# Altium integrated library Altera FPGA.IntLib: 467 symbols (part 1 of 3)
Pins are listed as number, name and electrical type; pins without a type are passive.

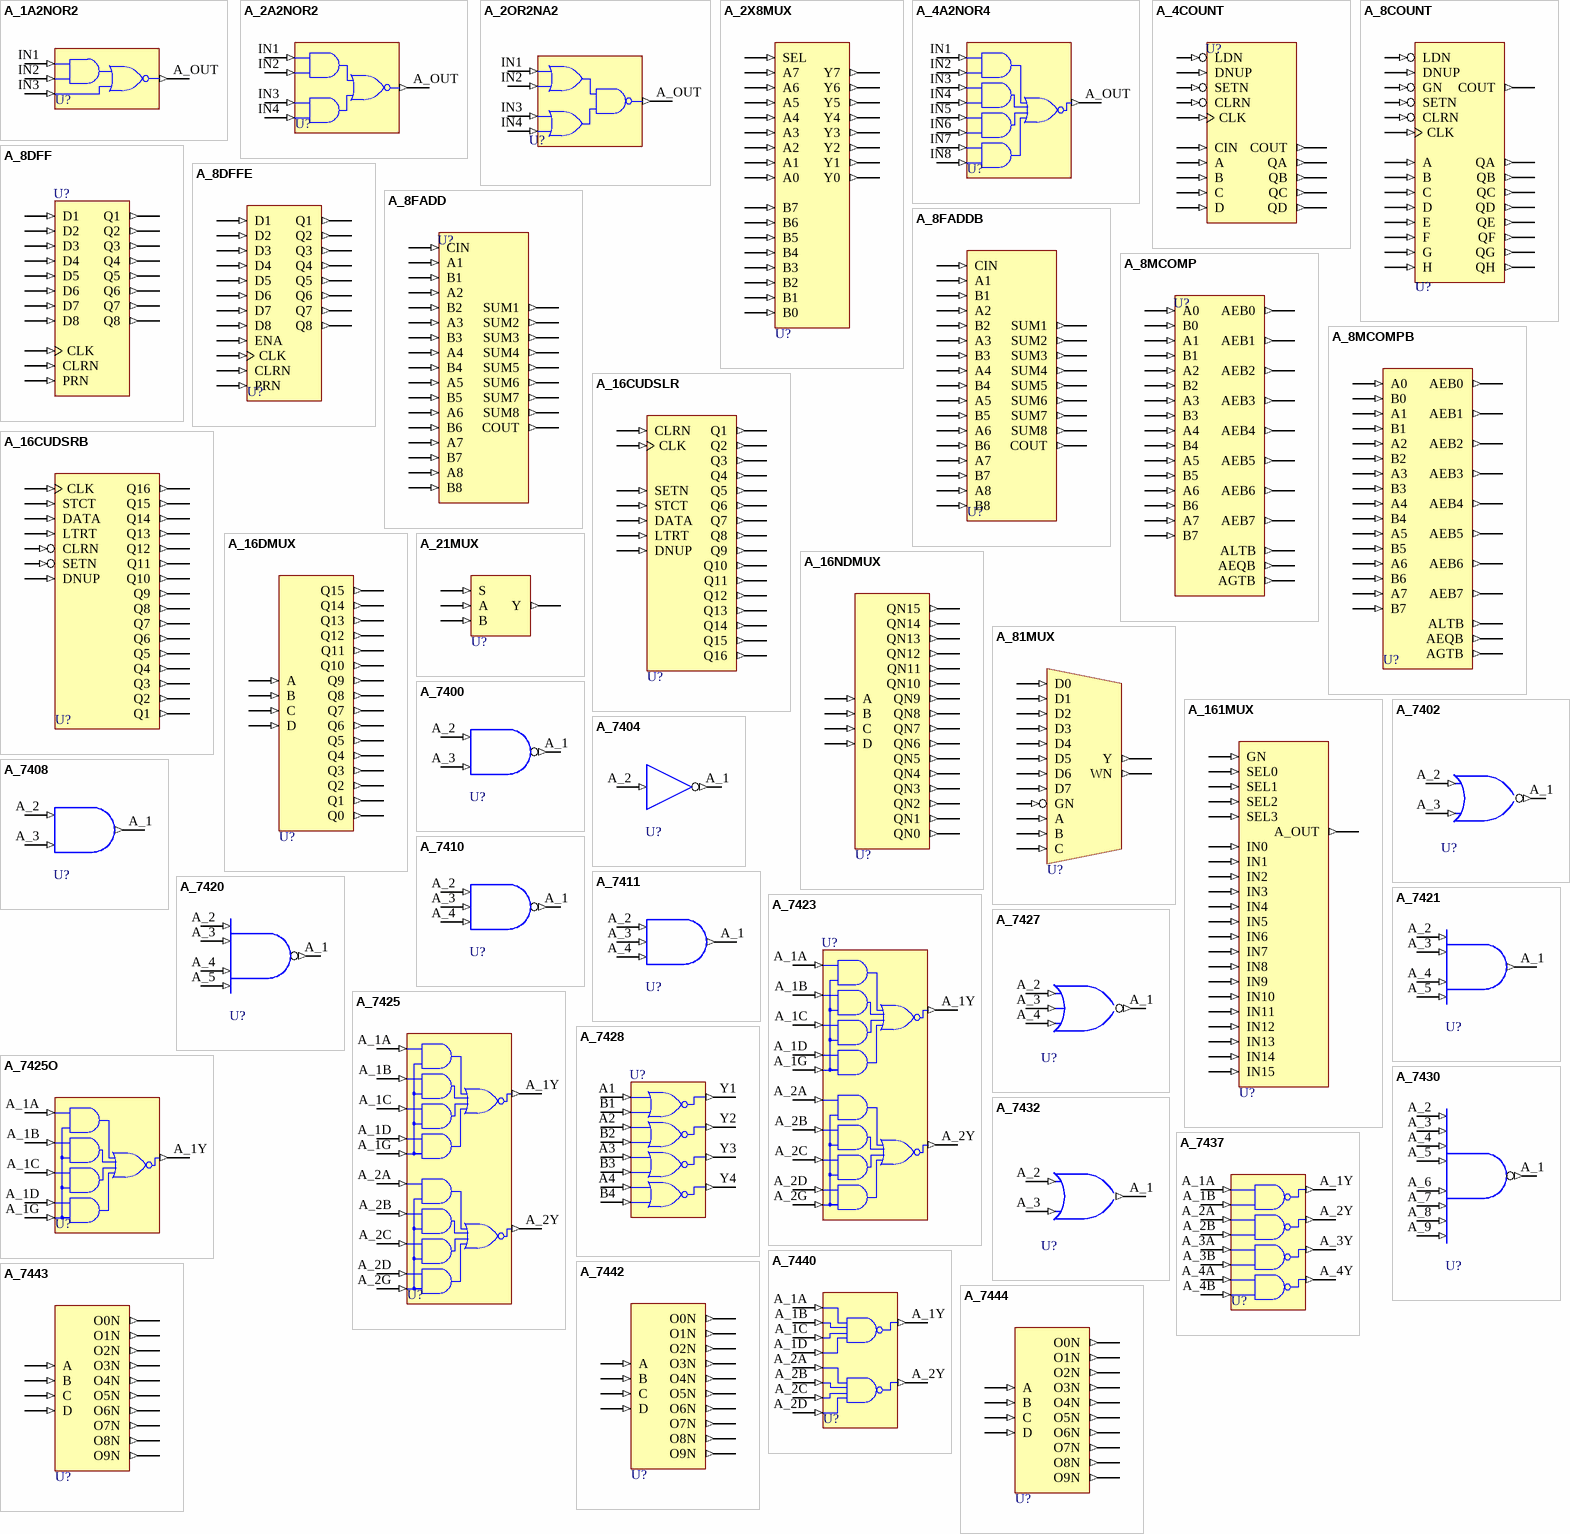
[diagram p0: symbols A_1A2NOR2 to A_7444]

## A_1A2NOR2
designator U?
3-Input AND-NOR Gate.; FPGAVendor: Altera; Published: 17-Apr-2002; Publisher: Altium Limited
pins: A_OUT (out), IN1 (in), IN2 (in), IN3 (in)

## A_2A2NOR2
designator U?
4-Input AND-NOR Gate.; FPGAVendor: Altera; Published: 17-Apr-2002; Publisher: Altium Limited
pins: A_OUT (out), IN1 (in), IN2 (in), IN3 (in), IN4 (in)

## A_2OR2NA2
designator U?
4-Input OR-NAND Gate.; FPGAVendor: Altera; Published: 17-Apr-2002; Publisher: Altium Limited
pins: A_OUT (out), IN1 (in), IN2 (in), IN3 (in), IN4 (in)

## A_2X8MUX
designator U?
2-Line-to-1-Line Multiplexer for 8-Bit Buses; FPGAVendor: Altera; Published: 17-Apr-2002; Publisher: Altium Limited
pins: A0 (in), A1 (in), A2 (in), A3 (in), A4 (in), A5 (in), A6 (in), A7 (in), B0 (in), B1 (in), B2 (in), B3 (in), B4 (in), B5 (in), B6 (in), B7 (in), SEL (in), Y0 (out), Y1 (out), Y2 (out), Y3 (out), Y4 (out), Y5 (out), Y6 (out), Y7 (out)

## A_4A2NOR4
designator U?
8-Input AND-NOR Gate.; FPGAVendor: Altera; Published: 17-Apr-2002; Publisher: Altium Limited
pins: A_OUT (out), IN1 (in), IN2 (in), IN3 (in), IN4 (in), IN5 (in), IN6 (in), IN7 (in), IN8 (in)

## A_4COUNT
designator U?
4-Bit Binary Up/Down Counter with Synchronous Load (LDN), Asynchronous Clear, and Asynchronous Load (SETN); FPGAVendor: Altera; Published: 17-Apr-2002; Publisher: Altium Limited
pins: A (in), B (in), C (in), CIN (in), CLK (in), CLRN (in), COUT (out), D (in), DNUP (in), LDN (in), QA (out), QB (out), QC (out), QD (out), SETN (in)

## A_8COUNT
designator U?
8-Bit Binary Up/Down Counter with Synchronous Load (LDN), Asynchronous Clear, and Asynchronous Load (SETN).; FPGAVendor: Altera; Published: 17-Apr-2002; Publisher: Altium Limited
pins: A (in), B (in), C (in), CLK (in), CLRN (in), COUT (out), D (in), DNUP (in), E (in), F (in), G (in), GN (in), H (in), LDN (in), QA (out), QB (out), QC (out), QD (out), QE (out), QF (out), QG (out), QH (out), SETN (in)

## A_8DFF
designator U?
Octal D-Type Flipflop; FPGAVendor: Altera; Published: 17-Apr-2002; Publisher: Altium Limited
pins: CLK (in), CLRN (in), D1 (in), D2 (in), D3 (in), D4 (in), D5 (in), D6 (in), D7 (in), D8 (in), PRN (in), Q1 (out), Q2 (out), Q3 (out), Q4 (out), Q5 (out), Q6 (out), Q7 (out), Q8 (out)

## A_8DFFE
designator U?
Octal D-Type Flipflop; FPGAVendor: Altera; Published: 17-Apr-2002; Publisher: Altium Limited
pins: CLK (in), CLRN (in), D1 (in), D2 (in), D3 (in), D4 (in), D5 (in), D6 (in), D7 (in), D8 (in), ENA (in), PRN (in), Q1 (out), Q2 (out), Q3 (out), Q4 (out), Q5 (out), Q6 (out), Q7 (out), Q8 (out)

## A_8FADD
designator U?
8-Bit Full Adder; FPGAVendor: Altera; Published: 17-Apr-2002; Publisher: Altium Limited
pins: A1 (in), A2 (in), A3 (in), A4 (in), A5 (in), A6 (in), A7 (in), A8 (in), B1 (in), B2 (in), B3 (in), B4 (in), B5 (in), B6 (in), B7 (in), B8 (in), CIN (in), COUT (out), SUM1 (out), SUM2 (out), SUM3 (out), SUM4 (out), SUM5 (out), SUM6 (out), SUM7 (out), SUM8 (out)

## A_8FADDB
designator U?
8-Bit Full Adder; FPGAVendor: Altera; Published: 17-Apr-2002; Publisher: Altium Limited
pins: A1 (in), A2 (in), A3 (in), A4 (in), A5 (in), A6 (in), A7 (in), A8 (in), B1 (in), B2 (in), B3 (in), B4 (in), B5 (in), B6 (in), B7 (in), B8 (in), CIN (in), COUT (out), SUM1 (out), SUM2 (out), SUM3 (out), SUM4 (out), SUM5 (out), SUM6 (out), SUM7 (out), SUM8 (out)

## A_8MCOMP
designator U?
8-Bit Magnitude Comparator; FPGAVendor: Altera; Published: 17-Apr-2002; Publisher: Altium Limited
pins: A0 (in), A1 (in), A2 (in), A3 (in), A4 (in), A5 (in), A6 (in), A7 (in), AEB0 (out), AEB1 (out), AEB2 (out), AEB3 (out), AEB4 (out), AEB5 (out), AEB6 (out), AEB7 (out), AEQB (out), AGTB (out), ALTB (out), B0 (in), B1 (in), B2 (in), B3 (in), B4 (in), B5 (in), B6 (in), B7 (in)

## A_8MCOMPB
designator U?
8-Bit Magnitude Comparator; FPGAVendor: Altera; Published: 17-Apr-2002; Publisher: Altium Limited
pins: A0 (in), A1 (in), A2 (in), A3 (in), A4 (in), A5 (in), A6 (in), A7 (in), AEB0 (out), AEB1 (out), AEB2 (out), AEB3 (out), AEB4 (out), AEB5 (out), AEB6 (out), AEB7 (out), AEQB (out), AGTB (out), ALTB (out), B0 (in), B1 (in), B2 (in), B3 (in), B4 (in), B5 (in), B6 (in), B7 (in)

## A_16CUDSLR
designator U?
16-Bit Binary Up/Down Counter Left/Right Shift Register with Asynchronous Set; FPGAVendor: Altera; Published: 17-Apr-2002; Publisher: Altium Limited
pins: CLK (in), CLRN (in), DATA (in), DNUP (in), LTRT (in), Q1 (out), Q2 (out), Q3 (out), Q4 (out), Q5 (out), Q6 (out), Q7 (out), Q8 (out), Q9 (out), Q10 (out), Q11 (out), Q12 (out), Q13 (out), Q14 (out), Q15 (out), Q16 (out), SETN (in), STCT (in)

## A_16CUDSRB
designator U?
16-Bit Binary Up/Down Counter with Left/Right Shift Register, Asynchronous Clear, and Asynchronous Set; FPGAVendor: Altera; Published: 17-Apr-2002; Publisher: Altium Limited
pins: CLK (in), CLRN (in), DATA (in), DNUP (in), LTRT (in), Q1 (out), Q2 (out), Q3 (out), Q4 (out), Q5 (out), Q6 (out), Q7 (out), Q8 (out), Q9 (out), Q10 (out), Q11 (out), Q12 (out), Q13 (out), Q14 (out), Q15 (out), Q16 (out), SETN (in), STCT (in)

## A_16DMUX
designator U?
4-Bit Binary-to-16-Line Decoder; FPGAVendor: Altera; Published: 17-Apr-2002; Publisher: Altium Limited
pins: A (in), B (in), C (in), D (in), Q0 (out), Q1 (out), Q2 (out), Q3 (out), Q4 (out), Q5 (out), Q6 (out), Q7 (out), Q8 (out), Q9 (out), Q10 (out), Q11 (out), Q12 (out), Q13 (out), Q14 (out), Q15 (out)

## A_16NDMUX
designator U?
4-Bit Binary-to-16-Line Decoder; FPGAVendor: Altera; Published: 17-Apr-2002; Publisher: Altium Limited
pins: A (in), B (in), C (in), D (in), QN0 (out), QN1 (out), QN2 (out), QN3 (out), QN4 (out), QN5 (out), QN6 (out), QN7 (out), QN8 (out), QN9 (out), QN10 (out), QN11 (out), QN12 (out), QN13 (out), QN14 (out), QN15 (out)

## A_21MUX
designator U?
2-Line-to-1-Line Multiplexer; FPGAVendor: Altera; Published: 17-Apr-2002; Publisher: Altium Limited
pins: A (in), B (in), S (in), Y (out)

## A_81MUX
designator U?
8-Line-to-1-Line Multiplexer; FPGAVendor: Altera; Published: 17-Apr-2002; Publisher: Altium Limited
pins: A (in), B (in), C (in), D0 (in), D1 (in), D2 (in), D3 (in), D4 (in), D5 (in), D6 (in), D7 (in), GN (in), WN (out), Y (out)

## A_161MUX
designator U?
16-Line-to-1-Line Multiplexer; FPGAVendor: Altera; Published: 17-Apr-2002; Publisher: Altium Limited
pins: A_OUT (out), GN (in), IN0 (in), IN1 (in), IN2 (in), IN3 (in), IN4 (in), IN5 (in), IN6 (in), IN7 (in), IN8 (in), IN9 (in), IN10 (in), IN11 (in), IN12 (in), IN13 (in), IN14 (in), IN15 (in), SEL0 (in), SEL1 (in), SEL2 (in), SEL3 (in)

## A_7400
designator U?
2-Input NAND Gate; FPGAVendor: Altera; Published: 17-Apr-2002; Publisher: Altium Limited
pins: A_1 (out), A_2 (in), A_3 (in)

## A_7402
designator U?
2-Input NOR Gate; FPGAVendor: Altera; Published: 17-Apr-2002; Publisher: Altium Limited
pins: A_1 (out), A_2 (in), A_3 (in)

## A_7404
designator U?
NOT Gate (Inverter); FPGAVendor: Altera; Published: 17-Apr-2002; Publisher: Altium Limited
pins: A_1 (out), A_2 (in)

## A_7408
designator U?
2-Input AND Gate; FPGAVendor: Altera; Published: 17-Apr-2002; Publisher: Altium Limited
pins: A_1 (out), A_2 (in), A_3 (in)

## A_7410
designator U?
3-Input NAND Gate; FPGAVendor: Altera; Published: 17-Apr-2002; Publisher: Altium Limited
pins: A_1 (out), A_2 (in), A_3 (in), A_4 (in)

## A_7411
designator U?
3-Input AND Gate; FPGAVendor: Altera; Published: 17-Apr-2002; Publisher: Altium Limited
pins: A_1 (out), A_2 (in), A_3 (in), A_4 (in)

## A_7420
designator U?
4-Input NAND Gate; FPGAVendor: Altera; Published: 17-Apr-2002; Publisher: Altium Limited
pins: A_1 (out), A_2 (in), A_3 (in), A_4 (in), A_5 (in)

## A_7421
designator U?
4-Input AND Gate; FPGAVendor: Altera; Published: 17-Apr-2002; Publisher: Altium Limited
pins: A_1 (out), A_2 (in), A_3 (in), A_4 (in), A_5 (in)

## A_7423
designator U?
Dual 4-Input NOR Gate with Strobe; FPGAVendor: Altera; Published: 17-Apr-2002; Publisher: Altium Limited
pins: A_1A (in), A_1B (in), A_1C (in), A_1D (in), A_1G (in), A_1Y (out), A_2A (in), A_2B (in), A_2C (in), A_2D (in), A_2G (in), A_2Y (out)

## A_7425
designator U?
Dual 4-Input NOR Gate with Strobe; FPGAVendor: Altera; Published: 17-Apr-2002; Publisher: Altium Limited
pins: A_1A (in), A_1B (in), A_1C (in), A_1D (in), A_1G (in), A_1Y (out), A_2A (in), A_2B (in), A_2C (in), A_2D (in), A_2G (in), A_2Y (out)

## A_7425O
designator U?
4-Input NOR Gate with Strobe; FPGAVendor: Altera; Published: 17-Apr-2002; Publisher: Altium Limited
pins: A_1A (in), A_1B (in), A_1C (in), A_1D (in), A_1G (in), A_1Y (out)

## A_7427
designator U?
3-Input NOR Gate; FPGAVendor: Altera; Published: 17-Apr-2002; Publisher: Altium Limited
pins: A_1 (out), A_2 (in), A_3 (in), A_4 (in)

## A_7428
designator U?
Quad 2-Input Positive NOR Buffers; FPGAVendor: Altera; Published: 17-Apr-2002; Publisher: Altium Limited
pins: A1 (in), A2 (in), A3 (in), A4 (in), B1 (in), B2 (in), B3 (in), B4 (in), Y1 (out), Y2 (out), Y3 (out), Y4 (out)

## A_7430
designator U?
8-Input NAND Gate; FPGAVendor: Altera; Published: 17-Apr-2002; Publisher: Altium Limited
pins: A_1 (out), A_2 (in), A_3 (in), A_4 (in), A_5 (in), A_6 (in), A_7 (in), A_8 (in), A_9 (in)

## A_7432
designator U?
2-input OR Gate; FPGAVendor: Altera; Published: 17-Apr-2002; Publisher: Altium Limited
pins: A_1 (out), A_2 (in), A_3 (in)

## A_7437
designator U?
Quad 2-Input Positive NAND Gate; FPGAVendor: Altera; Published: 17-Apr-2002; Publisher: Altium Limited
pins: A_1A (in), A_1B (in), A_1Y (out), A_2A (in), A_2B (in), A_2Y (out), A_3A (in), A_3B (in), A_3Y (out), A_4A (in), A_4B (in), A_4Y (out)

## A_7440
designator U?
Dual 4-Input Positive NAND Gate; FPGAVendor: Altera; Published: 17-Apr-2002; Publisher: Altium Limited
pins: A_1A (in), A_1B (in), A_1C (in), A_1D (in), A_1Y (out), A_2A (in), A_2B (in), A_2C (in), A_2D (in), A_2Y (out)

## A_7442
designator U?
1-Line-to-10-Line BCD-to-Decimal Decoder; FPGAVendor: Altera; Published: 17-Apr-2002; Publisher: Altium Limited
pins: A (in), B (in), C (in), D (in), O0N (out), O1N (out), O2N (out), O3N (out), O4N (out), O5N (out), O6N (out), O7N (out), O8N (out), O9N (out)

## A_7443
designator U?
Excess-3-to-Decimal Decoder; FPGAVendor: Altera; Published: 17-Apr-2002; Publisher: Altium Limited
pins: A (in), B (in), C (in), D (in), O0N (out), O1N (out), O2N (out), O3N (out), O4N (out), O5N (out), O6N (out), O7N (out), O8N (out), O9N (out)

## A_7444
designator U?
Excess-3-Gray-to-Decimal Decoder; FPGAVendor: Altera; Published: 17-Apr-2002; Publisher: Altium Limited
pins: A (in), B (in), C (in), D (in), O0N (out), O1N (out), O2N (out), O3N (out), O4N (out), O5N (out), O6N (out), O7N (out), O8N (out), O9N (out)

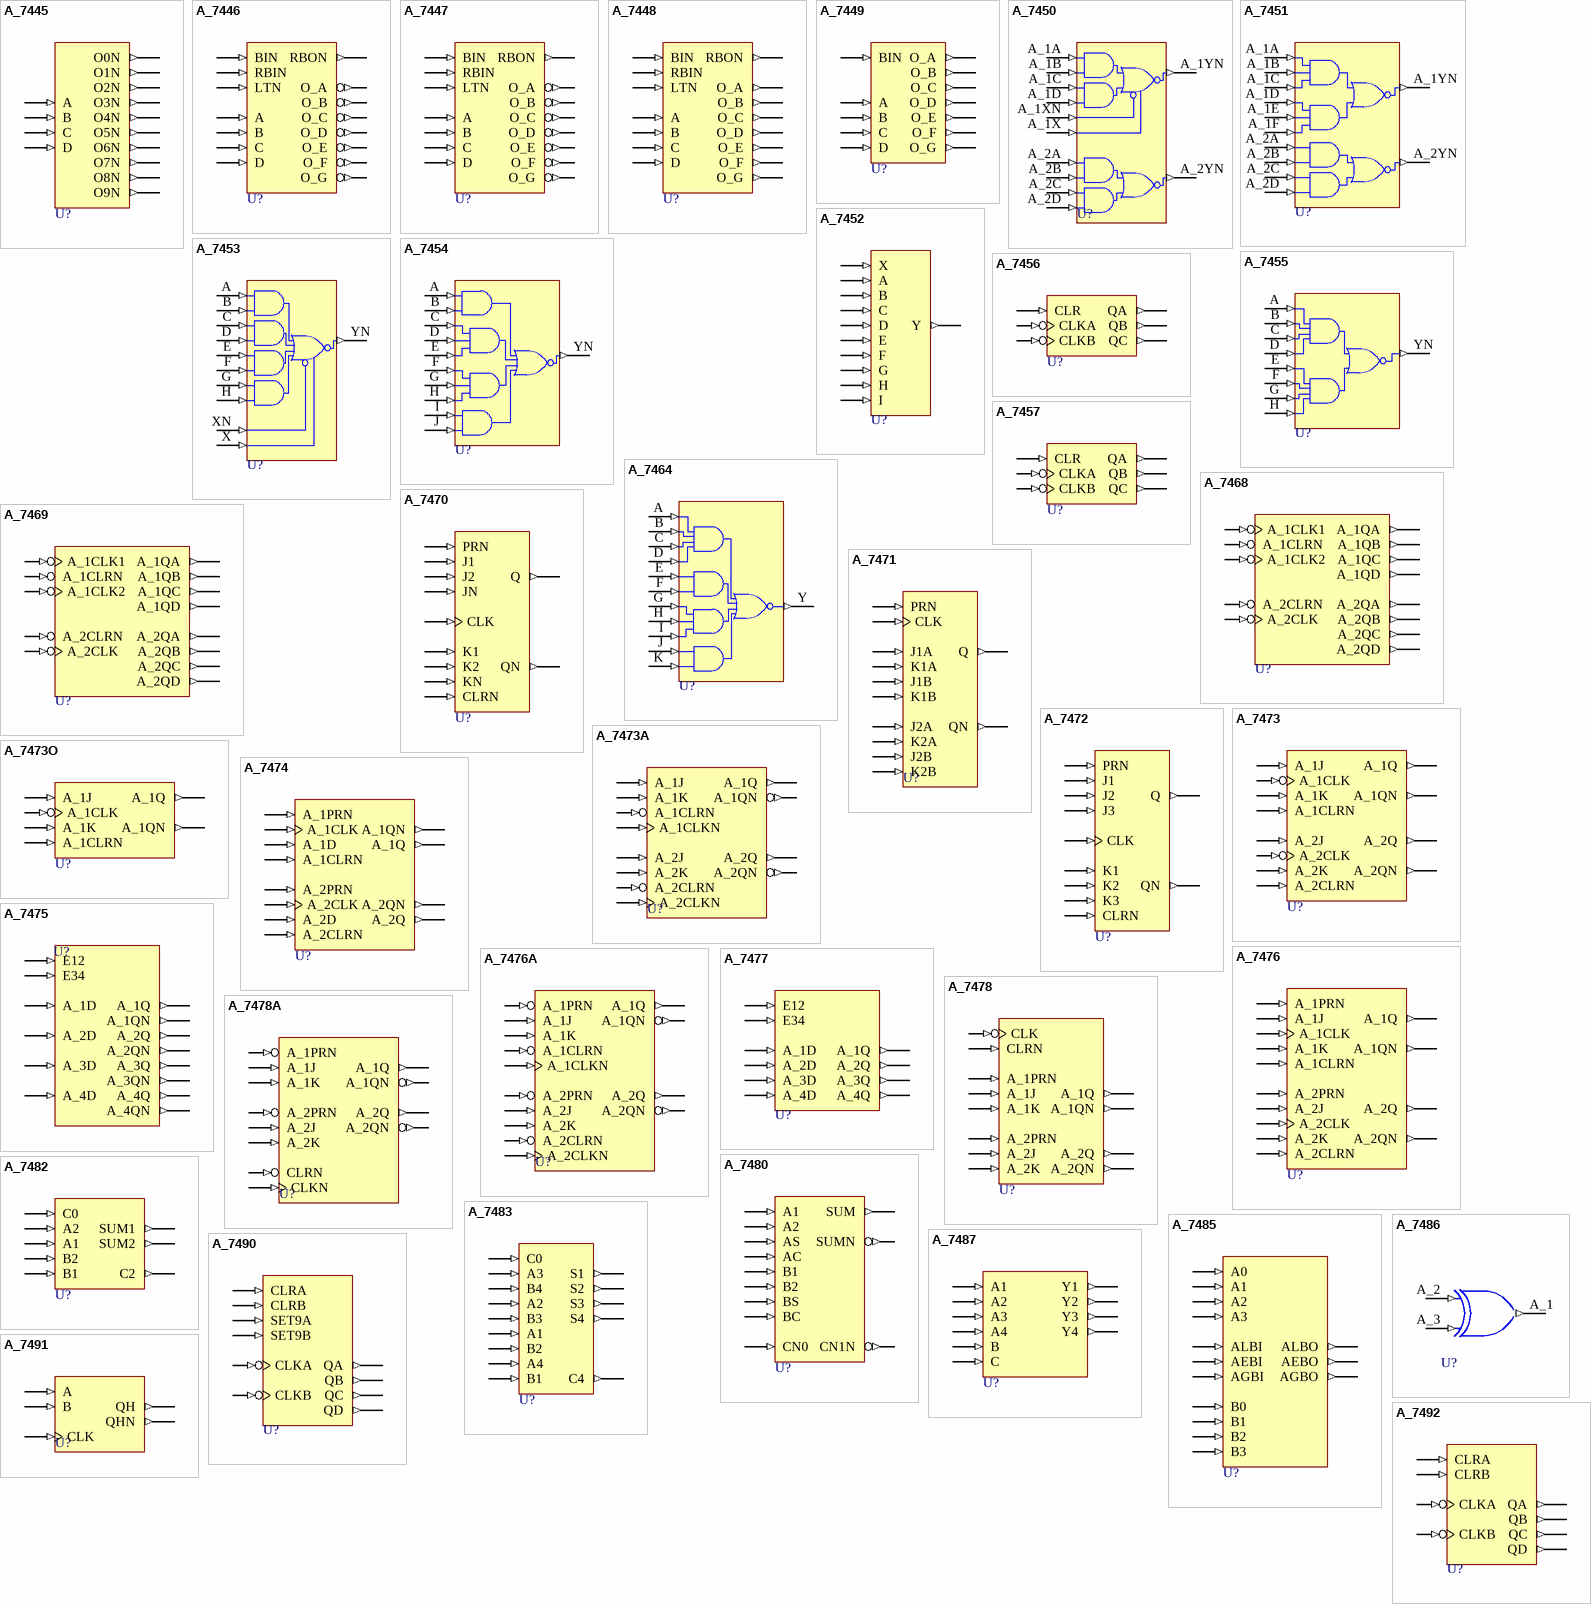
[diagram p1: symbols A_7445 to A_7492]

## A_7445
designator U?
BCD-to-Decimal Decoder/Driver; FPGAVendor: Altera; Published: 17-Apr-2002; Publisher: Altium Limited
pins: A (in), B (in), C (in), D (in), O0N (out), O1N (out), O2N (out), O3N (out), O4N (out), O5N (out), O6N (out), O7N (out), O8N (out), O9N (out)

## A_7446
designator U?
BCD-to-7-Segment Decoder; FPGAVendor: Altera; Published: 17-Apr-2002; Publisher: Altium Limited
pins: A (in), B (in), BIN (in), C (in), D (in), LTN (in), O_A (out), O_B (out), O_C (out), O_D (out), O_E (out), O_F (out), O_G (out), RBIN (in), RBON (out)

## A_7447
designator U?
BCD-to-7-Segment Decoder; FPGAVendor: Altera; Published: 17-Apr-2002; Publisher: Altium Limited
pins: A (in), B (in), BIN (in), C (in), D (in), LTN (in), O_A (out), O_B (out), O_C (out), O_D (out), O_E (out), O_F (out), O_G (out), RBIN (in), RBON (out)

## A_7448
designator U?
BCD-to-7-Segment Decoder; FPGAVendor: Altera; Published: 17-Apr-2002; Publisher: Altium Limited
pins: A (in), B (in), BIN (in), C (in), D (in), LTN (in), O_A (out), O_B (out), O_C (out), O_D (out), O_E (out), O_F (out), O_G (out), RBIN (in), RBON (out)

## A_7449
designator U?
BCD-to-7-Segment Decoder; FPGAVendor: Altera; Published: 17-Apr-2002; Publisher: Altium Limited
pins: A (in), B (in), BIN (in), C (in), D (in), O_A (out), O_B (out), O_C (out), O_D (out), O_E (out), O_F (out), O_G (out)

## A_7450
designator U?
Dual 2-Wide 2-Input AND-OR-INVERT Gate; FPGAVendor: Altera; Published: 17-Apr-2002; Publisher: Altium Limited
pins: A_1A (in), A_1B (in), A_1C (in), A_1D (in), A_1X (in), A_1XN (in), A_1YN (out), A_2A (in), A_2B (in), A_2C (in), A_2D (in), A_2YN (out)

## A_7451
designator U?
Dual AND-OR-INVERT Gate; FPGAVendor: Altera; Published: 17-Apr-2002; Publisher: Altium Limited
pins: A_1A (in), A_1B (in), A_1C (in), A_1D (in), A_1E (in), A_1F (in), A_1YN (out), A_2A (in), A_2B (in), A_2C (in), A_2D (in), A_2YN (out)

## A_7452
designator U?
AND-OR Gate; FPGAVendor: Altera; Published: 17-Apr-2002; Publisher: Altium Limited
pins: A (in), B (in), C (in), D (in), E (in), F (in), G (in), H (in), I (in), X (in), Y (out)

## A_7453
designator U?
Expandable 4-Wide AND-OR-INVERT Gate; FPGAVendor: Altera; Published: 17-Apr-2002; Publisher: Altium Limited
pins: A (in), B (in), C (in), D (in), E (in), F (in), G (in), H (in), X (in), XN (in), YN (out)

## A_7454
designator U?
4-Wide AND-OR-INVERT Gate; FPGAVendor: Altera; Published: 17-Apr-2002; Publisher: Altium Limited
pins: A (in), B (in), C (in), D (in), E (in), F (in), G (in), H (in), I (in), J (in), YN (out)

## A_7455
designator U?
2-Wide, 4-Input AND-OR-INVERT Gate; FPGAVendor: Altera; Published: 17-Apr-2002; Publisher: Altium Limited
pins: A (in), B (in), C (in), D (in), E (in), F (in), G (in), H (in), YN (out)

## A_7456
designator U?
Frequency Divider; FPGAVendor: Altera; Published: 17-Apr-2002; Publisher: Altium Limited
pins: CLKA (in), CLKB (in), CLR (in), QA (out), QB (out), QC (out)

## A_7457
designator U?
Frequency Divider; FPGAVendor: Altera; Published: 17-Apr-2002; Publisher: Altium Limited
pins: CLKA (in), CLKB (in), CLR (in), QA (out), QB (out), QC (out)

## A_7464
designator U?
4-2-3-2 Input AND-OR-INVERT Gate; FPGAVendor: Altera; Published: 17-Apr-2002; Publisher: Altium Limited
pins: A (in), B (in), C (in), D (in), E (in), F (in), G (in), H (in), I (in), J (in), K (in), Y (out)

## A_7468
designator U?
Dual Decade Counter; FPGAVendor: Altera; Published: 17-Apr-2002; Publisher: Altium Limited
pins: A_1CLK1 (in), A_1CLK2 (in), A_1CLRN (in), A_1QA (out), A_1QB (out), A_1QC (out), A_1QD (out), A_2CLK (in), A_2CLRN (in), A_2QA (out), A_2QB (out), A_2QC (out), A_2QD (out)

## A_7469
designator U?
Dual Binary Counter; FPGAVendor: Altera; Published: 17-Apr-2002; Publisher: Altium Limited
pins: A_1CLK1 (in), A_1CLK2 (in), A_1CLRN (in), A_1QA (out), A_1QB (out), A_1QC (out), A_1QD (out), A_2CLK (in), A_2CLRN (in), A_2QA (out), A_2QB (out), A_2QC (out), A_2QD (out)

## A_7470
designator U?
AND-Gated J-K Flip-Flop with Preset and Clear; FPGAVendor: Altera; Published: 17-Apr-2002; Publisher: Altium Limited
pins: CLK (in), CLRN (in), J1 (in), J2 (in), JN (in), K1 (in), K2 (in), KN (in), PRN (in), Q (out), QN (out)

## A_7471
designator U?
J-K Flip-Flop with Preset; FPGAVendor: Altera; Published: 17-Apr-2002; Publisher: Altium Limited
pins: CLK (in), J1A (in), J1B (in), J2A (in), J2B (in), K1A (in), K1B (in), K2A (in), K2B (in), PRN (in), Q (out), QN (out)

## A_7472
designator U?
AND-Gated J-K Flip-Flop with Preset and Clear; FPGAVendor: Altera; Published: 17-Apr-2002; Publisher: Altium Limited
pins: CLK (in), CLRN (in), J1 (in), J2 (in), J3 (in), K1 (in), K2 (in), K3 (in), PRN (in), Q (out), QN (out)

## A_7473
designator U?
Dual J-K Flip-Flop with Clear; FPGAVendor: Altera; Published: 17-Apr-2002; Publisher: Altium Limited
pins: A_1CLK (in), A_1CLRN (in), A_1J (in), A_1K (in), A_1Q (out), A_1QN (out), A_2CLK (in), A_2CLRN (in), A_2J (in), A_2K (in), A_2Q (out), A_2QN (out)

## A_7473A
designator U?
Dual JK Flipflop with Clear; FPGAVendor: Altera; Published: 17-Apr-2002; Publisher: Altium Limited
pins: A_1CLKN (in), A_1CLRN (in), A_1J (in), A_1K (in), A_1Q (out), A_1QN (out), A_2CLKN (in), A_2CLRN (in), A_2J (in), A_2K (in), A_2Q (out), A_2QN (out)

## A_7473O
designator U?
JK Flipflop with Clear; FPGAVendor: Altera; Published: 17-Apr-2002; Publisher: Altium Limited
pins: A_1CLK (in), A_1CLRN (in), A_1J (in), A_1K (in), A_1Q (out), A_1QN (out)

## A_7474
designator U?
Dual D-Type Flip-Flop with Asynchronous Preset and Asynchronous Clear; FPGAVendor: Altera; Published: 17-Apr-2002; Publisher: Altium Limited
pins: A_1CLK (in), A_1CLRN (in), A_1D (in), A_1PRN (in), A_1Q (out), A_1QN (out), A_2CLK (in), A_2CLRN (in), A_2D (in), A_2PRN (in), A_2Q (out), A_2QN (out)

## A_7475
designator U?
4-Bit Bistable Latch; FPGAVendor: Altera; Published: 17-Apr-2002; Publisher: Altium Limited
pins: A_1D (in), A_1Q (out), A_1QN (out), A_2D (in), A_2Q (out), A_2QN (out), A_3D (in), A_3Q (out), A_3QN (out), A_4D (in), A_4Q (out), A_4QN (out), E12 (in), E34 (in)

## A_7476
designator U?
Dual J-K Flip-Flop with Asynchronous Preset and Asynchronous Clear; FPGAVendor: Altera; Published: 17-Apr-2002; Publisher: Altium Limited
pins: A_1CLK (in), A_1CLRN (in), A_1J (in), A_1K (in), A_1PRN (in), A_1Q (out), A_1QN (out), A_2CLK (in), A_2CLRN (in), A_2J (in), A_2K (in), A_2PRN (in), A_2Q (out), A_2QN (out)

## A_7476A
designator U?
Dual JK Flipflop with Asynchronous Preset and Asynchronous Clear; FPGAVendor: Altera; Published: 17-Apr-2002; Publisher: Altium Limited
pins: A_1CLKN (in), A_1CLRN (in), A_1J (in), A_1K (in), A_1PRN (in), A_1Q (out), A_1QN (out), A_2CLKN (in), A_2CLRN (in), A_2J (in), A_2K (in), A_2PRN (in), A_2Q (out), A_2QN (out)

## A_7477
designator U?
4-Bit Bistable Latch; FPGAVendor: Altera; Published: 17-Apr-2002; Publisher: Altium Limited
pins: A_1D (in), A_1Q (out), A_2D (in), A_2Q (out), A_3D (in), A_3Q (out), A_4D (in), A_4Q (out), E12 (in), E34 (in)

## A_7478
designator U?
Dual J-K Flip-Flop with Asynchronous Preset, Common Clear, and Common Clock; FPGAVendor: Altera; Published: 17-Apr-2002; Publisher: Altium Limited
pins: A_1J (in), A_1K (in), A_1PRN (in), A_1Q (out), A_1QN (out), A_2J (in), A_2K (in), A_2PRN (in), A_2Q (out), A_2QN (out), CLK (in), CLRN (in)

## A_7478A
designator U?
Dual JK Flipflop with Asynchronous Preset, Common Clear, and Common Clock; FPGAVendor: Altera; Published: 17-Apr-2002; Publisher: Altium Limited
pins: A_1J (in), A_1K (in), A_1PRN (in), A_1Q (out), A_1QN (out), A_2J (in), A_2K (in), A_2PRN (in), A_2Q (out), A_2QN (out), CLKN (in), CLRN (in)

## A_7480
designator U?
Gated Full Adder; FPGAVendor: Altera; Published: 17-Apr-2002; Publisher: Altium Limited
pins: A1 (in), A2 (in), AC (in), AS (in), B1 (in), B2 (in), BC (in), BS (in), CN0 (in), CN1N (out), SUM (out), SUMN (out)

## A_7482
designator U?
2-Bit Binary Full Adder; FPGAVendor: Altera; Published: 17-Apr-2002; Publisher: Altium Limited
pins: A1 (in), A2 (in), B1 (in), B2 (in), C0 (in), C2 (out), SUM1 (out), SUM2 (out)

## A_7483
designator U?
4-Bit Binary Full Adder with Fast Carry; FPGAVendor: Altera; Published: 17-Apr-2002; Publisher: Altium Limited
pins: A1 (in), A2 (in), A3 (in), A4 (in), B1 (in), B2 (in), B3 (in), B4 (in), C0 (in), C4 (out), S1 (out), S2 (out), S3 (out), S4 (out)

## A_7485
designator U?
4-Bit Magnitude Comparator; FPGAVendor: Altera; Published: 17-Apr-2002; Publisher: Altium Limited
pins: A0 (in), A1 (in), A2 (in), A3 (in), AEBI (in), AEBO (out), AGBI (in), AGBO (out), ALBI (in), ALBO (out), B0 (in), B1 (in), B2 (in), B3 (in)

## A_7486
designator U?
2-Input XOR Gate; FPGAVendor: Altera; Published: 17-Apr-2002; Publisher: Altium Limited
pins: A_1 (out), A_2 (in), A_3 (in)

## A_7487
designator U?
4-Bit True/Complement I/O Element; FPGAVendor: Altera; Published: 17-Apr-2002; Publisher: Altium Limited
pins: A1 (in), A2 (in), A3 (in), A4 (in), B (in), C (in), Y1 (out), Y2 (out), Y3 (out), Y4 (out)

## A_7490
designator U?
Decade or Binary Counter with Clear and Set-to-9; FPGAVendor: Altera; Published: 17-Apr-2002; Publisher: Altium Limited
pins: CLKA (in), CLKB (in), CLRA (in), CLRB (in), QA (out), QB (out), QC (out), QD (out), SET9A (in), SET9B (in)

## A_7491
designator U?
Serial-In Serial-Out Shift Register; FPGAVendor: Altera; Published: 17-Apr-2002; Publisher: Altium Limited
pins: A (in), B (in), CLK (in), QH (out), QHN (out)

## A_7492
designator U?
Divide-by-12 Counter; FPGAVendor: Altera; Published: 17-Apr-2002; Publisher: Altium Limited
pins: CLKA (in), CLKB (in), CLRA (in), CLRB (in), QA (out), QB (out), QC (out), QD (out)

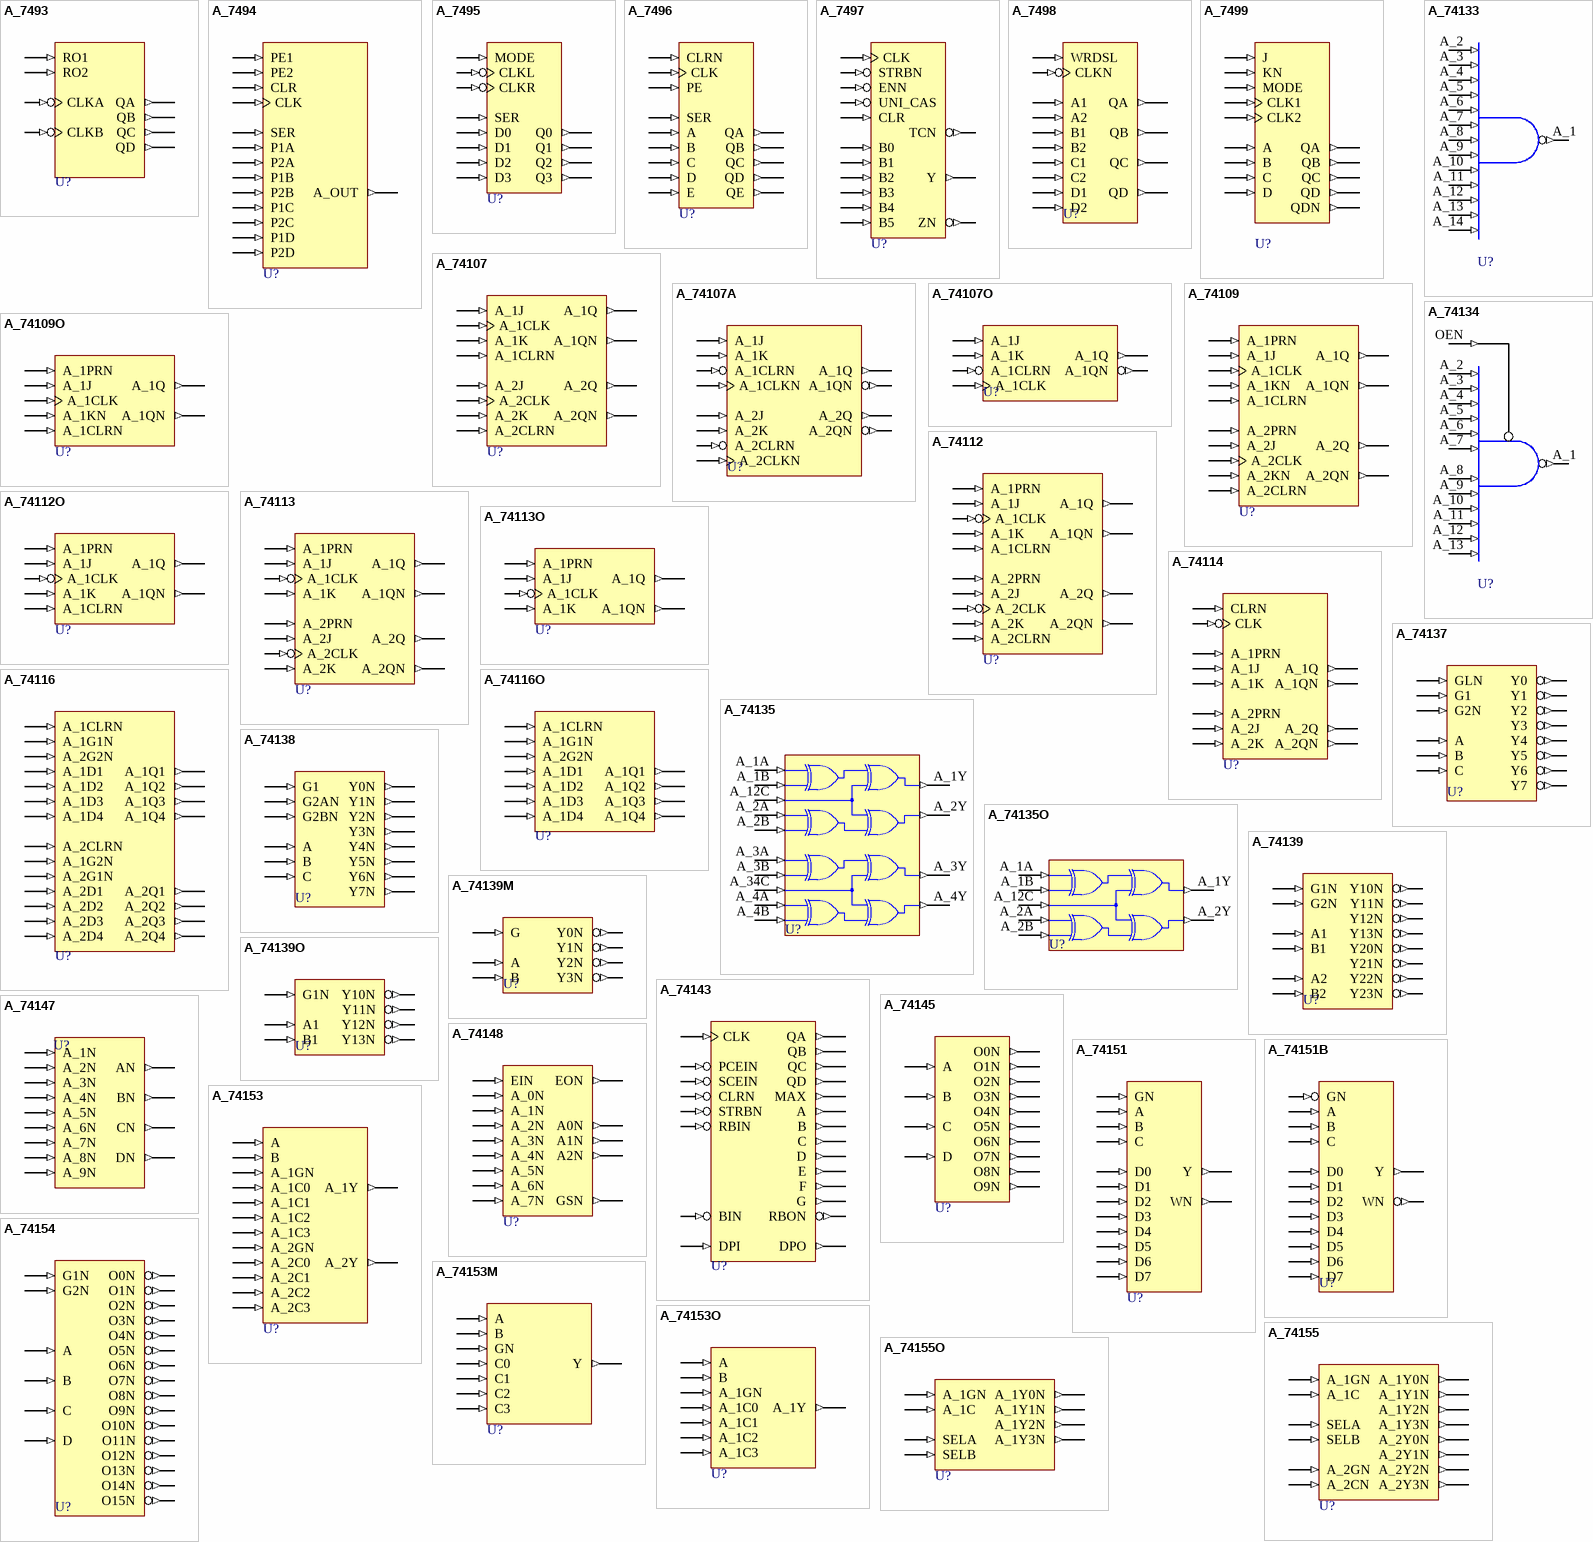
[diagram p2: symbols A_7493 to A_74155O]

## A_7493
designator U?
4-Bit Binary Counter; FPGAVendor: Altera; Published: 17-Apr-2002; Publisher: Altium Limited
pins: CLKA (in), CLKB (in), QA (out), QB (out), QC (out), QD (out), RO1 (in), RO2 (in)

## A_7494
designator U?
4-Bit Shift Register with Asynchronous Preset and Asynchronous Clear; FPGAVendor: Altera; Published: 17-Apr-2002; Publisher: Altium Limited
pins: A_OUT (out), CLK (in), CLR (in), P1A (in), P1B (in), P1C (in), P1D (in), P2A (in), P2B (in), P2C (in), P2D (in), PE1 (in), PE2 (in), SER (in)

## A_7495
designator U?
4-Bit Parallel-Access Shift Register; FPGAVendor: Altera; Published: 17-Apr-2002; Publisher: Altium Limited
pins: CLKL (in), CLKR (in), D0 (in), D1 (in), D2 (in), D3 (in), MODE (in), Q0 (out), Q1 (out), Q2 (out), Q3 (out), SER (in)

## A_7496
designator U?
5-Bit Shift Register; FPGAVendor: Altera; Published: 17-Apr-2002; Publisher: Altium Limited
pins: A (in), B (in), C (in), CLK (in), CLRN (in), D (in), E (in), PE (in), QA (out), QB (out), QC (out), QD (out), QE (out), SER (in)

## A_7497
designator U?
Synchronous 6-Bit Rate Multiplier; FPGAVendor: Altera; Published: 17-Apr-2002; Publisher: Altium Limited
pins: B0 (in), B1 (in), B2 (in), B3 (in), B4 (in), B5 (in), CLK (in), CLR (in), ENN (in), STRBN (in), TCN (out), UNI_CAS (in), Y (out), ZN (out)

## A_7498
designator U?
4-Bit Data Selector/Storage Register; FPGAVendor: Altera; Published: 17-Apr-2002; Publisher: Altium Limited
pins: A1 (in), A2 (in), B1 (in), B2 (in), C1 (in), C2 (in), CLKN (in), D1 (in), D2 (in), QA (out), QB (out), QC (out), QD (out), WRDSL (in)

## A_7499
designator U?
4-Bit Shift Register with /J-K Serial Inputs and Parallel Outputs; FPGAVendor: Altera; Published: 17-Apr-2002; Publisher: Altium Limited
pins: A (in), B (in), C (in), CLK1 (in), CLK2 (in), D (in), J (in), KN (in), MODE (in), QA (out), QB (out), QC (out), QD (out), QDN (out)

## A_74107
designator U?
Dual J-K Flip-Flop with Clear; FPGAVendor: Altera; Published: 17-Apr-2002; Publisher: Altium Limited
pins: A_1CLK (in), A_1CLRN (in), A_1J (in), A_1K (in), A_1Q (out), A_1QN (out), A_2CLK (in), A_2CLRN (in), A_2J (in), A_2K (in), A_2Q (out), A_2QN (out)

## A_74107A
designator U?
Dual JK Flip-Flop with Clear; FPGAVendor: Altera; Published: 17-Apr-2002; Publisher: Altium Limited
pins: A_1CLKN (in), A_1CLRN (in), A_1J (in), A_1K (in), A_1Q (out), A_1QN (out), A_2CLKN (in), A_2CLRN (in), A_2J (in), A_2K (in), A_2Q (out), A_2QN (out)

## A_74107O
designator U?
JK Flip-Flop with Clear; FPGAVendor: Altera; Published: 17-Apr-2002; Publisher: Altium Limited
pins: A_1CLK (in), A_1CLRN (in), A_1J (in), A_1K (in), A_1Q (out), A_1QN (out)

## A_74109
designator U?
Dual J-K Flip-Flop with Preset and Clear; FPGAVendor: Altera; Published: 17-Apr-2002; Publisher: Altium Limited
pins: A_1CLK (in), A_1CLRN (in), A_1J (in), A_1KN (in), A_1PRN (in), A_1Q (out), A_1QN (out), A_2CLK (in), A_2CLRN (in), A_2J (in), A_2KN (in), A_2PRN (in), A_2Q (out), A_2QN (out)

## A_74109O
designator U?
J-K Flip-Flop with Preset and Clear; FPGAVendor: Altera; Published: 17-Apr-2002; Publisher: Altium Limited
pins: A_1CLK (in), A_1CLRN (in), A_1J (in), A_1KN (in), A_1PRN (in), A_1Q (out), A_1QN (out)

## A_74112
designator U?
Dual J-K Negative-Edge-Triggered Flip-Flop with Preset and Clear; FPGAVendor: Altera; Published: 17-Apr-2002; Publisher: Altium Limited
pins: A_1CLK (in), A_1CLRN (in), A_1J (in), A_1K (in), A_1PRN (in), A_1Q (out), A_1QN (out), A_2CLK (in), A_2CLRN (in), A_2J (in), A_2K (in), A_2PRN (in), A_2Q (out), A_2QN (out)

## A_74112O
designator U?
J-K Negative-Edge-Triggered Flip-Flop with Preset and Clear; FPGAVendor: Altera; Published: 17-Apr-2002; Publisher: Altium Limited
pins: A_1CLK (in), A_1CLRN (in), A_1J (in), A_1K (in), A_1PRN (in), A_1Q (out), A_1QN (out)

## A_74113
designator U?
Dual J-K Negative-Edge-Triggered Flip-Flop with Preset; FPGAVendor: Altera; Published: 17-Apr-2002; Publisher: Altium Limited
pins: A_1CLK (in), A_1J (in), A_1K (in), A_1PRN (in), A_1Q (out), A_1QN (out), A_2CLK (in), A_2J (in), A_2K (in), A_2PRN (in), A_2Q (out), A_2QN (out)

## A_74113O
designator U?
J-K Negative-Edge-Triggered Flip-Flop with Preset; FPGAVendor: Altera; Published: 17-Apr-2002; Publisher: Altium Limited
pins: A_1CLK (in), A_1J (in), A_1K (in), A_1PRN (in), A_1Q (out), A_1QN (out)

## A_74114
designator U?
Dual J-K Negative-Edge-Triggered Flip-Flop with Preset, Common Clear, and Common Clock; FPGAVendor: Altera; Published: 17-Apr-2002; Publisher: Altium Limited
pins: A_1J (in), A_1K (in), A_1PRN (in), A_1Q (out), A_1QN (out), A_2J (in), A_2K (in), A_2PRN (in), A_2Q (out), A_2QN (out), CLK (in), CLRN (in)

## A_74116
designator U?
Dual 4-Bit Latch with Clear; FPGAVendor: Altera; Published: 17-Apr-2002; Publisher: Altium Limited
pins: A_1CLRN (in), A_1D1 (in), A_1D2 (in), A_1D3 (in), A_1D4 (in), A_1G1N (in), A_1G2N (in), A_1Q1 (out), A_1Q2 (out), A_1Q3 (out), A_1Q4 (out), A_2CLRN (in), A_2D1 (in), A_2D2 (in), A_2D3 (in), A_2D4 (in), A_2G1N (in), A_2G2N (in), A_2Q1 (out), A_2Q2 (out), A_2Q3 (out), A_2Q4 (out)

## A_74116O
designator U?
4-Bit Latch with Clear; FPGAVendor: Altera; Published: 17-Apr-2002; Publisher: Altium Limited
pins: A_1CLRN (in), A_1D1 (in), A_1D2 (in), A_1D3 (in), A_1D4 (in), A_1G1N (in), A_1Q1 (out), A_1Q2 (out), A_1Q3 (out), A_1Q4 (out), A_2G2N (in)

## A_74133
designator U?
13-Input NAND Gate; FPGAVendor: Altera; Published: 17-Apr-2002; Publisher: Altium Limited
pins: A_1 (out), A_2 (in), A_3 (in), A_4 (in), A_5 (in), A_6 (in), A_7 (in), A_8 (in), A_9 (in), A_10 (in), A_11 (in), A_12 (in), A_13 (in), A_14 (in)

## A_74134
designator U?
12-Input NAND Gate with Tri-State Output; FPGAVendor: Altera; Published: 17-Apr-2002; Publisher: Altium Limited
pins: A_1 (out), A_2 (in), A_3 (in), A_4 (in), A_5 (in), A_6 (in), A_7 (in), A_8 (in), A_9 (in), A_10 (in), A_11 (in), A_12 (in), A_13 (in), OEN (in)

## A_74135
designator U?
Quad XOR/XNOR Gates; FPGAVendor: Altera; Published: 17-Apr-2002; Publisher: Altium Limited
pins: A_1A (in), A_1B (in), A_1Y (out), A_2A (in), A_2B (in), A_2Y (out), A_3A (in), A_3B (in), A_3Y (out), A_4A (in), A_4B (in), A_4Y (out), A_12C (in), A_34C (in)

## A_74135O
designator U?
Dual XOR/XNOR Gates; FPGAVendor: Altera; Published: 17-Apr-2002; Publisher: Altium Limited
pins: A_1A (in), A_1B (in), A_1Y (out), A_2A (in), A_2B (in), A_2Y (out), A_12C (in)

## A_74137
designator U?
3-Line-to-8-Line Decoder with Address Latches; FPGAVendor: Altera; Published: 17-Apr-2002; Publisher: Altium Limited
pins: A (in), B (in), C (in), G1 (in), G2N (in), GLN (in), Y0 (out), Y1 (out), Y2 (out), Y3 (out), Y4 (out), Y5 (out), Y6 (out), Y7 (out)

## A_74138
designator U?
3-Line-to-8-Line Decoder; FPGAVendor: Altera; Published: 17-Apr-2002; Publisher: Altium Limited
pins: A (in), B (in), C (in), G1 (in), G2AN (in), G2BN (in), Y0N (out), Y1N (out), Y2N (out), Y3N (out), Y4N (out), Y5N (out), Y6N (out), Y7N (out)

## A_74139
designator U?
Dual 2-Line-to-4-Line Decoder; FPGAVendor: Altera; Published: 17-Apr-2002; Publisher: Altium Limited
pins: A1 (in), A2 (in), B1 (in), B2 (in), G1N (in), G2N (in), Y10N (out), Y11N (out), Y12N (out), Y13N (out), Y20N (out), Y21N (out), Y22N (out), Y23N (out)

## A_74139M
designator U?
2-Line-to-4-Line Decoder; FPGAVendor: Altera; Published: 17-Apr-2002; Publisher: Altium Limited
pins: A (in), B (in), G (in), Y0N (out), Y1N (out), Y2N (out), Y3N (out)

## A_74139O
designator U?
2-Line-to-4-Line Decoder; FPGAVendor: Altera; Published: 17-Apr-2002; Publisher: Altium Limited
pins: A1 (in), B1 (in), G1N (in), Y10N (out), Y11N (out), Y12N (out), Y13N (out)

## A_74143
designator U?
4-Bit Counter/Latch, 7-Segment Driver; FPGAVendor: Altera; Published: 17-Apr-2002; Publisher: Altium Limited
pins: A (out), B (out), BIN (in), C (out), CLK (in), CLRN (in), D (out), DPI (in), DPO (out), E (out), F (out), G (out), MAX (out), PCEIN (in), QA (out), QB (out), QC (out), QD (out), RBIN (in), RBON (out), SCEIN (in), STRBN (in)

## A_74145
designator U?
BCD-to-Decimal Decoder; FPGAVendor: Altera; Published: 17-Apr-2002; Publisher: Altium Limited
pins: A (in), B (in), C (in), D (in), O0N (out), O1N (out), O2N (out), O3N (out), O4N (out), O5N (out), O6N (out), O7N (out), O8N (out), O9N (out)

## A_74147
designator U?
10-Line-to-4-Line BCD Encoder; FPGAVendor: Altera; Published: 17-Apr-2002; Publisher: Altium Limited
pins: A_1N (in), A_2N (in), A_3N (in), A_4N (in), A_5N (in), A_6N (in), A_7N (in), A_8N (in), A_9N (in), AN (out), BN (out), CN (out), DN (out)

## A_74148
designator U?
8-Line-to-3-Line Octal Encoder; FPGAVendor: Altera; Published: 17-Apr-2002; Publisher: Altium Limited
pins: A0N (out), A1N (out), A2N (out), A_0N (in), A_1N (in), A_2N (in), A_3N (in), A_4N (in), A_5N (in), A_6N (in), A_7N (in), EIN (in), EON (out), GSN (out)

## A_74151
designator U?
8-Line-to-1-Line Multiplexer; FPGAVendor: Altera; Published: 17-Apr-2002; Publisher: Altium Limited
pins: A (in), B (in), C (in), D0 (in), D1 (in), D2 (in), D3 (in), D4 (in), D5 (in), D6 (in), D7 (in), GN (in), WN (out), Y (out)

## A_74151B
designator U?
8-Line-to-1-Line Multiplexer; FPGAVendor: Altera; Published: 17-Apr-2002; Publisher: Altium Limited
pins: A (in), B (in), C (in), D0 (in), D1 (in), D2 (in), D3 (in), D4 (in), D5 (in), D6 (in), D7 (in), GN (in), WN (out), Y (out)

## A_74153
designator U?
Dual 4-Line-to-1-Line Multiplexer; FPGAVendor: Altera; Published: 17-Apr-2002; Publisher: Altium Limited
pins: A (in), A_1C0 (in), A_1C1 (in), A_1C2 (in), A_1C3 (in), A_1GN (in), A_1Y (out), A_2C0 (in), A_2C1 (in), A_2C2 (in), A_2C3 (in), A_2GN (in), A_2Y (out), B (in)

## A_74153M
designator U?
4-Line-to-1-Line Multiplexer; FPGAVendor: Altera; Published: 17-Apr-2002; Publisher: Altium Limited
pins: A (in), B (in), C0 (in), C1 (in), C2 (in), C3 (in), GN (in), Y (out)

## A_74153O
designator U?
4-Line-to-1-Line Multiplexer; FPGAVendor: Altera; Published: 17-Apr-2002; Publisher: Altium Limited
pins: A (in), A_1C0 (in), A_1C1 (in), A_1C2 (in), A_1C3 (in), A_1GN (in), A_1Y (out), B (in)

## A_74154
designator U?
4-Line-to-16-Line Decoder; FPGAVendor: Altera; Published: 17-Apr-2002; Publisher: Altium Limited
pins: A (in), B (in), C (in), D (in), G1N (in), G2N (in), O0N (out), O1N (out), O2N (out), O3N (out), O4N (out), O5N (out), O6N (out), O7N (out), O8N (out), O9N (out), O10N (out), O11N (out), O12N (out), O13N (out), O14N (out), O15N (out)

## A_74155
designator U?
Dual 2-Line-to-4-Line Decoder/Demultiplexer; FPGAVendor: Altera; Published: 17-Apr-2002; Publisher: Altium Limited
pins: A_1C (in), A_1GN (in), A_1Y0N (out), A_1Y1N (out), A_1Y2N (out), A_1Y3N (out), A_2CN (in), A_2GN (in), A_2Y0N (out), A_2Y1N (out), A_2Y2N (out), A_2Y3N (out), SELA (in), SELB (in)

## A_74155O
designator U?
2-Line-to-4-Line Decoder/Demultiplexer; FPGAVendor: Altera; Published: 17-Apr-2002; Publisher: Altium Limited
pins: A_1C (in), A_1GN (in), A_1Y0N (out), A_1Y1N (out), A_1Y2N (out), A_1Y3N (out), SELA (in), SELB (in)

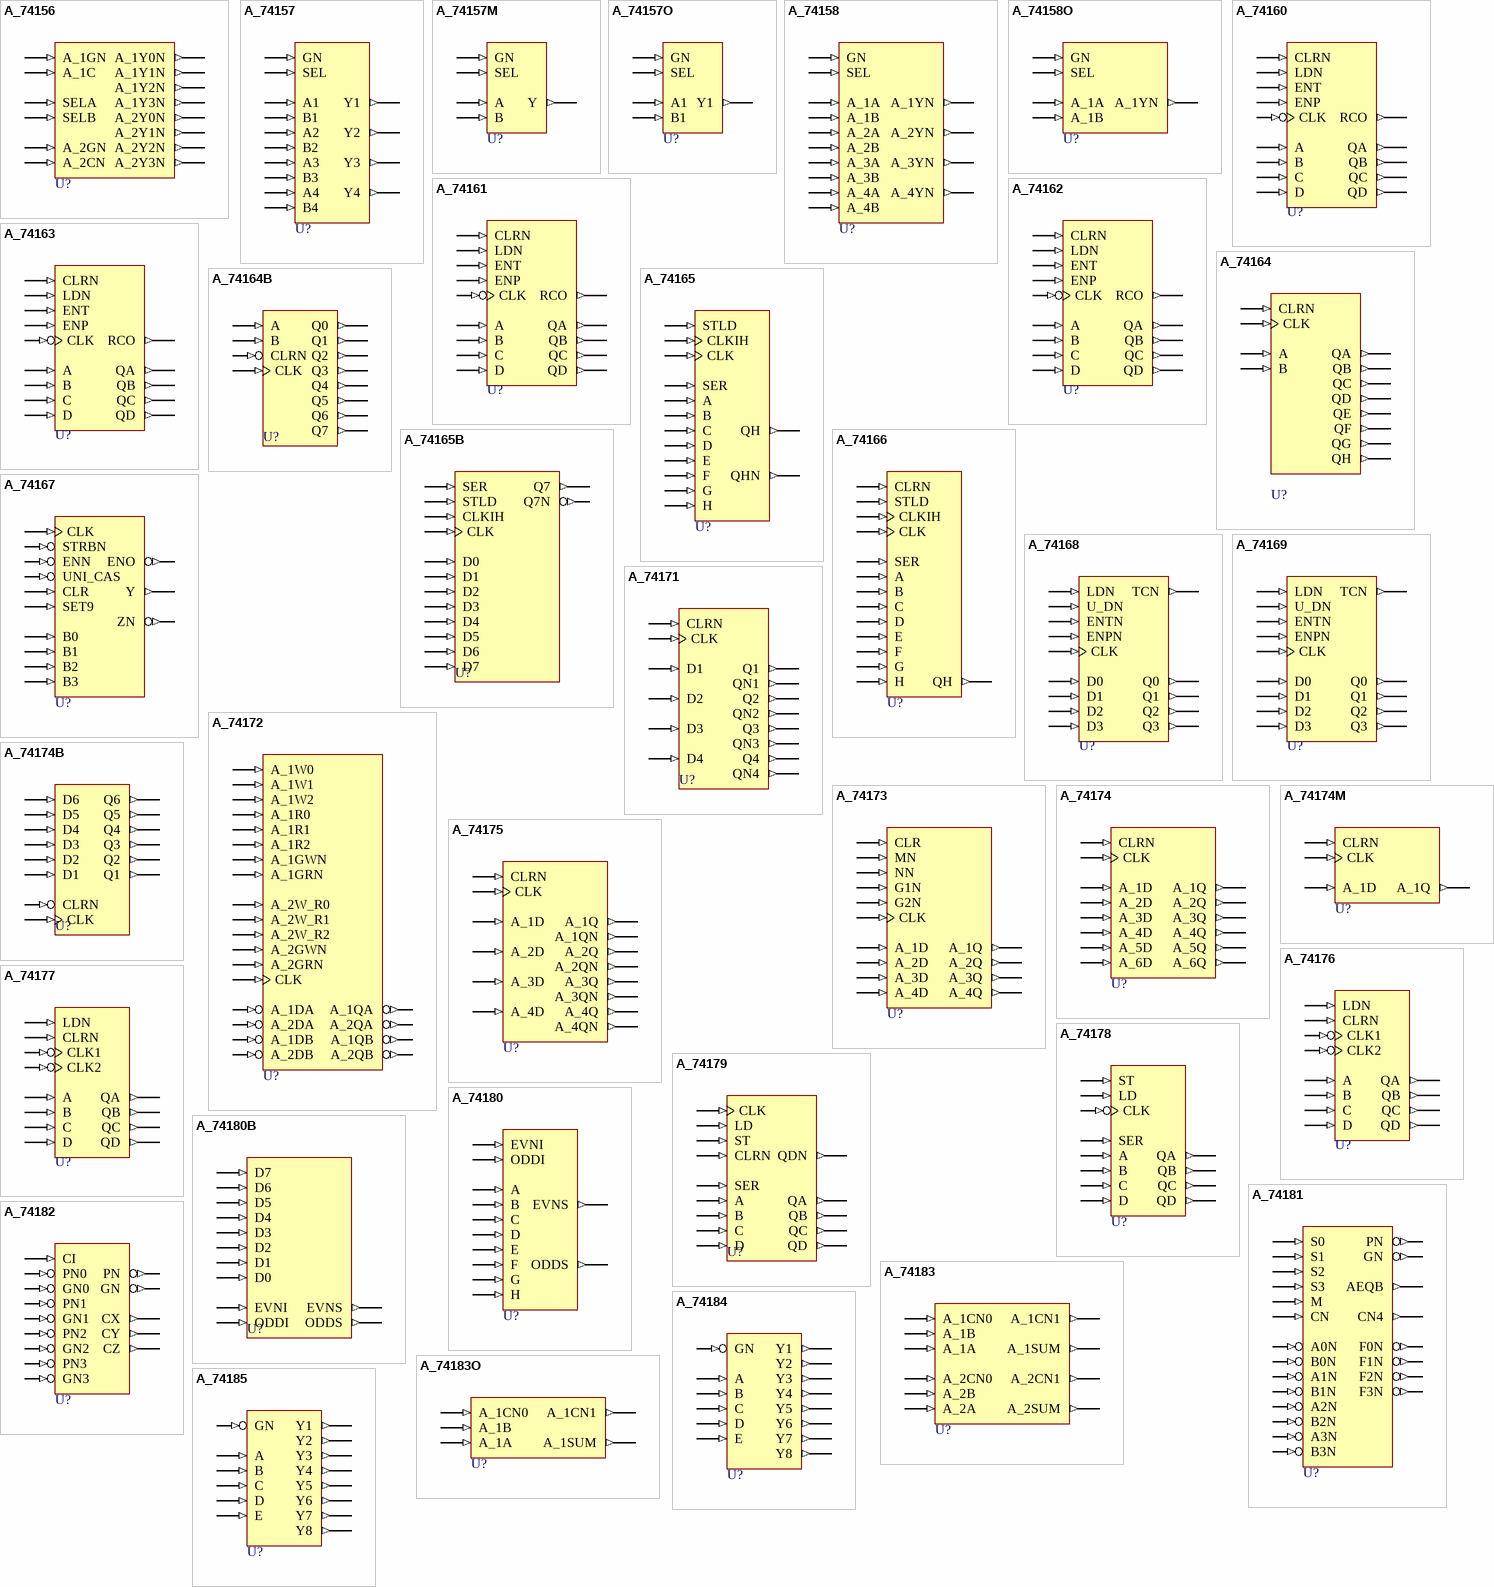
[diagram p3: symbols A_74156 to A_74185]

## A_74156
designator U?
Dual 2-Line-to-4-Line Decoder/Demultiplexer; FPGAVendor: Altera; Published: 17-Apr-2002; Publisher: Altium Limited
pins: A_1C (in), A_1GN (in), A_1Y0N (out), A_1Y1N (out), A_1Y2N (out), A_1Y3N (out), A_2CN (in), A_2GN (in), A_2Y0N (out), A_2Y1N (out), A_2Y2N (out), A_2Y3N (out), SELA (in), SELB (in)

## A_74157
designator U?
Quad 2-Line-to-1-Line Multiplexer; FPGAVendor: Altera; Published: 17-Apr-2002; Publisher: Altium Limited
pins: A1 (in), A2 (in), A3 (in), A4 (in), B1 (in), B2 (in), B3 (in), B4 (in), GN (in), SEL (in), Y1 (out), Y2 (out), Y3 (out), Y4 (out)

## A_74157M
designator U?
Quad 2-Line-to-1-Line Multiplexer; FPGAVendor: Altera; Published: 17-Apr-2002; Publisher: Altium Limited
pins: A (in), B (in), GN (in), SEL (in), Y (out)

## A_74157O
designator U?
Quad 2-Line-to-1-Line Multiplexer; FPGAVendor: Altera; Published: 17-Apr-2002; Publisher: Altium Limited
pins: A1 (in), B1 (in), GN (in), SEL (in), Y1 (out)

## A_74158
designator U?
Quad 2-Line-to-1-Line Multiplexer with Inverting Outputs; FPGAVendor: Altera; Published: 17-Apr-2002; Publisher: Altium Limited
pins: A_1A (in), A_1B (in), A_1YN (out), A_2A (in), A_2B (in), A_2YN (out), A_3A (in), A_3B (in), A_3YN (out), A_4A (in), A_4B (in), A_4YN (out), GN (in), SEL (in)

## A_74158O
designator U?
2-Line-to-1-Line Multiplexer with Inverting Outputs; FPGAVendor: Altera; Published: 17-Apr-2002; Publisher: Altium Limited
pins: A_1A (in), A_1B (in), A_1YN (out), GN (in), SEL (in)

## A_74160
designator U?
4-Bit Decade Counter with Synchronous Load and Asynchronous Clear; FPGAVendor: Altera; Published: 17-Apr-2002; Publisher: Altium Limited
pins: A (in), B (in), C (in), CLK (in), CLRN (in), D (in), ENP (in), ENT (in), LDN (in), QA (out), QB (out), QC (out), QD (out), RCO (out)

## A_74161
designator U?
4-Bit Binary Up Counter with Synchronous Load and Asynchronous Clear; FPGAVendor: Altera; Published: 17-Apr-2002; Publisher: Altium Limited
pins: A (in), B (in), C (in), CLK (in), CLRN (in), D (in), ENP (in), ENT (in), LDN (in), QA (out), QB (out), QC (out), QD (out), RCO (out)

## A_74162
designator U?
4-Bit Decade Up Counter with Synchronous Load and Synchronous Clear; FPGAVendor: Altera; Published: 17-Apr-2002; Publisher: Altium Limited
pins: A (in), B (in), C (in), CLK (in), CLRN (in), D (in), ENP (in), ENT (in), LDN (in), QA (out), QB (out), QC (out), QD (out), RCO (out)

## A_74163
designator U?
4-Bit Binary Up Counter with Synchronous Load and Synchronous Clear; FPGAVendor: Altera; Published: 17-Apr-2002; Publisher: Altium Limited
pins: A (in), B (in), C (in), CLK (in), CLRN (in), D (in), ENP (in), ENT (in), LDN (in), QA (out), QB (out), QC (out), QD (out), RCO (out)

## A_74164
designator U?
Serial-In Parallel-Out Shift Register; FPGAVendor: Altera; Published: 17-Apr-2002; Publisher: Altium Limited
pins: A (in), B (in), CLK (in), CLRN (in), QA (out), QB (out), QC (out), QD (out), QE (out), QF (out), QG (out), QH (out)

## A_74164B
designator U?
Serial-In Parallel-Out Shift Register; FPGAVendor: Altera; Published: 17-Apr-2002; Publisher: Altium Limited
pins: A (in), B (in), CLK (in), CLRN (in), Q0 (out), Q1 (out), Q2 (out), Q3 (out), Q4 (out), Q5 (out), Q6 (out), Q7 (out)

## A_74165
designator U?
Parallel Load 8-Bit Shift Register; FPGAVendor: Altera; Published: 17-Apr-2002; Publisher: Altium Limited
pins: A (in), B (in), C (in), CLK (in), CLKIH (in), D (in), E (in), F (in), G (in), H (in), QH (out), QHN (out), SER (in), STLD (in)

## A_74165B
designator U?
Parallel Load 8-Bit Shift Register; FPGAVendor: Altera; Published: 17-Apr-2002; Publisher: Altium Limited
pins: CLK (in), CLKIH (in), D0 (in), D1 (in), D2 (in), D3 (in), D4 (in), D5 (in), D6 (in), D7 (in), Q7 (out), Q7N (out), SER (in), STLD (in)

## A_74166
designator U?
8-Bit Shift Register with Clock Inhibit; FPGAVendor: Altera; Published: 17-Apr-2002; Publisher: Altium Limited
pins: A (in), B (in), C (in), CLK (in), CLKIH (in), CLRN (in), D (in), E (in), F (in), G (in), H (in), QH (out), SER (in), STLD (in)

## A_74167
designator U?
Synchronous Decade Rate Multiplier; FPGAVendor: Altera; Published: 17-Apr-2002; Publisher: Altium Limited
pins: B0 (in), B1 (in), B2 (in), B3 (in), CLK (in), CLR (in), ENN (in), ENO (out), SET9 (in), STRBN (in), UNI_CAS (in), Y (out), ZN (out)

## A_74168
designator U?
Synchronous 4-Bit Decade Up/Down Counter; FPGAVendor: Altera; Published: 17-Apr-2002; Publisher: Altium Limited
pins: CLK (in), D0 (in), D1 (in), D2 (in), D3 (in), ENPN (in), ENTN (in), LDN (in), Q0 (out), Q1 (out), Q2 (out), Q3 (out), TCN (out), U_DN (in)

## A_74169
designator U?
Synchronous 4-Bit Binary Up/Down Counter; FPGAVendor: Altera; Published: 17-Apr-2002; Publisher: Altium Limited
pins: CLK (in), D0 (in), D1 (in), D2 (in), D3 (in), ENPN (in), ENTN (in), LDN (in), Q0 (out), Q1 (out), Q2 (out), Q3 (out), TCN (out), U_DN (in)

## A_74171
designator U?
Quad D-Type Flip-Flops with Clear; FPGAVendor: Altera; Published: 17-Apr-2002; Publisher: Altium Limited
pins: CLK (in), CLRN (in), D1 (in), D2 (in), D3 (in), D4 (in), Q1 (out), Q2 (out), Q3 (out), Q4 (out), QN1 (out), QN2 (out), QN3 (out), QN4 (out)

## A_74172
designator U?
Multi-Port Register File with Tri-State Outputs; FPGAVendor: Altera; Published: 17-Apr-2002; Publisher: Altium Limited
pins: A_1DA (in), A_1DB (in), A_1GRN (in), A_1GWN (in), A_1QA (out), A_1QB (out), A_1R0 (in), A_1R1 (in), A_1R2 (in), A_1W0 (in), A_1W1 (in), A_1W2 (in), A_2DA (in), A_2DB (in), A_2GRN (in), A_2GWN (in), A_2QA (out), A_2QB (out), A_2W_R0 (in), A_2W_R1 (in), A_2W_R2 (in), CLK (in)

## A_74173
designator U?
4-Bit D-Type Register; FPGAVendor: Altera; Published: 17-Apr-2002; Publisher: Altium Limited
pins: A_1D (in), A_1Q (out), A_2D (in), A_2Q (out), A_3D (in), A_3Q (out), A_4D (in), A_4Q (out), CLK (in), CLR (in), G1N (in), G2N (in), MN (in), NN (in)

## A_74174
designator U?
Hex D-Type Flip-Flop with Common Clear; FPGAVendor: Altera; Published: 17-Apr-2002; Publisher: Altium Limited
pins: A_1D (in), A_1Q (out), A_2D (in), A_2Q (out), A_3D (in), A_3Q (out), A_4D (in), A_4Q (out), A_5D (in), A_5Q (out), A_6D (in), A_6Q (out), CLK (in), CLRN (in)

## A_74174B
designator U?
Hex D-Type Flipflop with Common Clear; FPGAVendor: Altera; Published: 17-Apr-2002; Publisher: Altium Limited
pins: CLK (in), CLRN (in), D1 (in), D2 (in), D3 (in), D4 (in), D5 (in), D6 (in), Q1 (out), Q2 (out), Q3 (out), Q4 (out), Q5 (out), Q6 (out)

## A_74174M
designator U?
D-Type Flip-Flop with Common Clear; FPGAVendor: Altera; Published: 17-Apr-2002; Publisher: Altium Limited
pins: A_1D (in), A_1Q (out), CLK (in), CLRN (in)

## A_74175
designator U?
Quad D-Type Flip-Flop with Common Clock and Clear; FPGAVendor: Altera; Published: 17-Apr-2002; Publisher: Altium Limited
pins: A_1D (in), A_1Q (out), A_1QN (out), A_2D (in), A_2Q (out), A_2QN (out), A_3D (in), A_3Q (out), A_3QN (out), A_4D (in), A_4Q (out), A_4QN (out), CLK (in), CLRN (in)

## A_74176
designator U?
Presettable Decade Counter; FPGAVendor: Altera; Published: 17-Apr-2002; Publisher: Altium Limited
pins: A (in), B (in), C (in), CLK1 (in), CLK2 (in), CLRN (in), D (in), LDN (in), QA (out), QB (out), QC (out), QD (out)

## A_74177
designator U?
Presettable Binary Counter; FPGAVendor: Altera; Published: 17-Apr-2002; Publisher: Altium Limited
pins: A (in), B (in), C (in), CLK1 (in), CLK2 (in), CLRN (in), D (in), LDN (in), QA (out), QB (out), QC (out), QD (out)

## A_74178
designator U?
4-Bit Shift Register; FPGAVendor: Altera; Published: 17-Apr-2002; Publisher: Altium Limited
pins: A (in), B (in), C (in), CLK (in), D (in), LD (in), QA (out), QB (out), QC (out), QD (out), SER (in), ST (in)

## A_74179
designator U?
4-Bit Shift Register with Clear; FPGAVendor: Altera; Published: 17-Apr-2002; Publisher: Altium Limited
pins: A (in), B (in), C (in), CLK (in), CLRN (in), D (in), LD (in), QA (out), QB (out), QC (out), QD (out), QDN (out), SER (in), ST (in)

## A_74180
designator U?
9-Bit Odd/Even Parity Generator/Checker; FPGAVendor: Altera; Published: 17-Apr-2002; Publisher: Altium Limited
pins: A (in), B (in), C (in), D (in), E (in), EVNI (in), EVNS (out), F (in), G (in), H (in), ODDI (in), ODDS (out)

## A_74180B
designator U?
9-Bit Odd/Even Parity Generator/Checker; FPGAVendor: Altera; Published: 17-Apr-2002; Publisher: Altium Limited
pins: D0 (in), D1 (in), D2 (in), D3 (in), D4 (in), D5 (in), D6 (in), D7 (in), EVNI (in), EVNS (out), ODDI (in), ODDS (out)

## A_74181
designator U?
Arithmetic Logic Unit/Function Generator; FPGAVendor: Altera; Published: 17-Apr-2002; Publisher: Altium Limited
pins: A0N (in), A1N (in), A2N (in), A3N (in), AEQB (out), B0N (in), B1N (in), B2N (in), B3N (in), CN (in), CN4 (out), F0N (out), F1N (out), F2N (out), F3N (out), GN (out), M (in), PN (out), S0 (in), S1 (in), S2 (in), S3 (in)

## A_74182
designator U?
Look-Ahead Carry Generator; FPGAVendor: Altera; Published: 17-Apr-2002; Publisher: Altium Limited
pins: CI (in), CX (out), CY (out), CZ (out), GN (out), GN0 (in), GN1 (in), GN2 (in), GN3 (in), PN (out), PN0 (in), PN1 (in), PN2 (in), PN3 (in)

## A_74183
designator U?
Dual Carry-Save Full Adder; FPGAVendor: Altera; Published: 17-Apr-2002; Publisher: Altium Limited
pins: A_1A (in), A_1B (in), A_1CN0 (in), A_1CN1 (out), A_1SUM (out), A_2A (in), A_2B (in), A_2CN0 (in), A_2CN1 (out), A_2SUM (out)

## A_74183O
designator U?
Carry-Save Full Adder; FPGAVendor: Altera; Published: 17-Apr-2002; Publisher: Altium Limited
pins: A_1A (in), A_1B (in), A_1CN0 (in), A_1CN1 (out), A_1SUM (out)

## A_74184
designator U?
BCD-to-Binary Converter; FPGAVendor: Altera; Published: 17-Apr-2002; Publisher: Altium Limited
pins: A (in), B (in), C (in), D (in), E (in), GN (in), Y1 (out), Y2 (out), Y3 (out), Y4 (out), Y5 (out), Y6 (out), Y7 (out), Y8 (out)

## A_74185
designator U?
Binary-to-BCD Converter; FPGAVendor: Altera; Published: 17-Apr-2002; Publisher: Altium Limited
pins: A (in), B (in), C (in), D (in), E (in), GN (in), Y1 (out), Y2 (out), Y3 (out), Y4 (out), Y5 (out), Y6 (out), Y7 (out), Y8 (out)

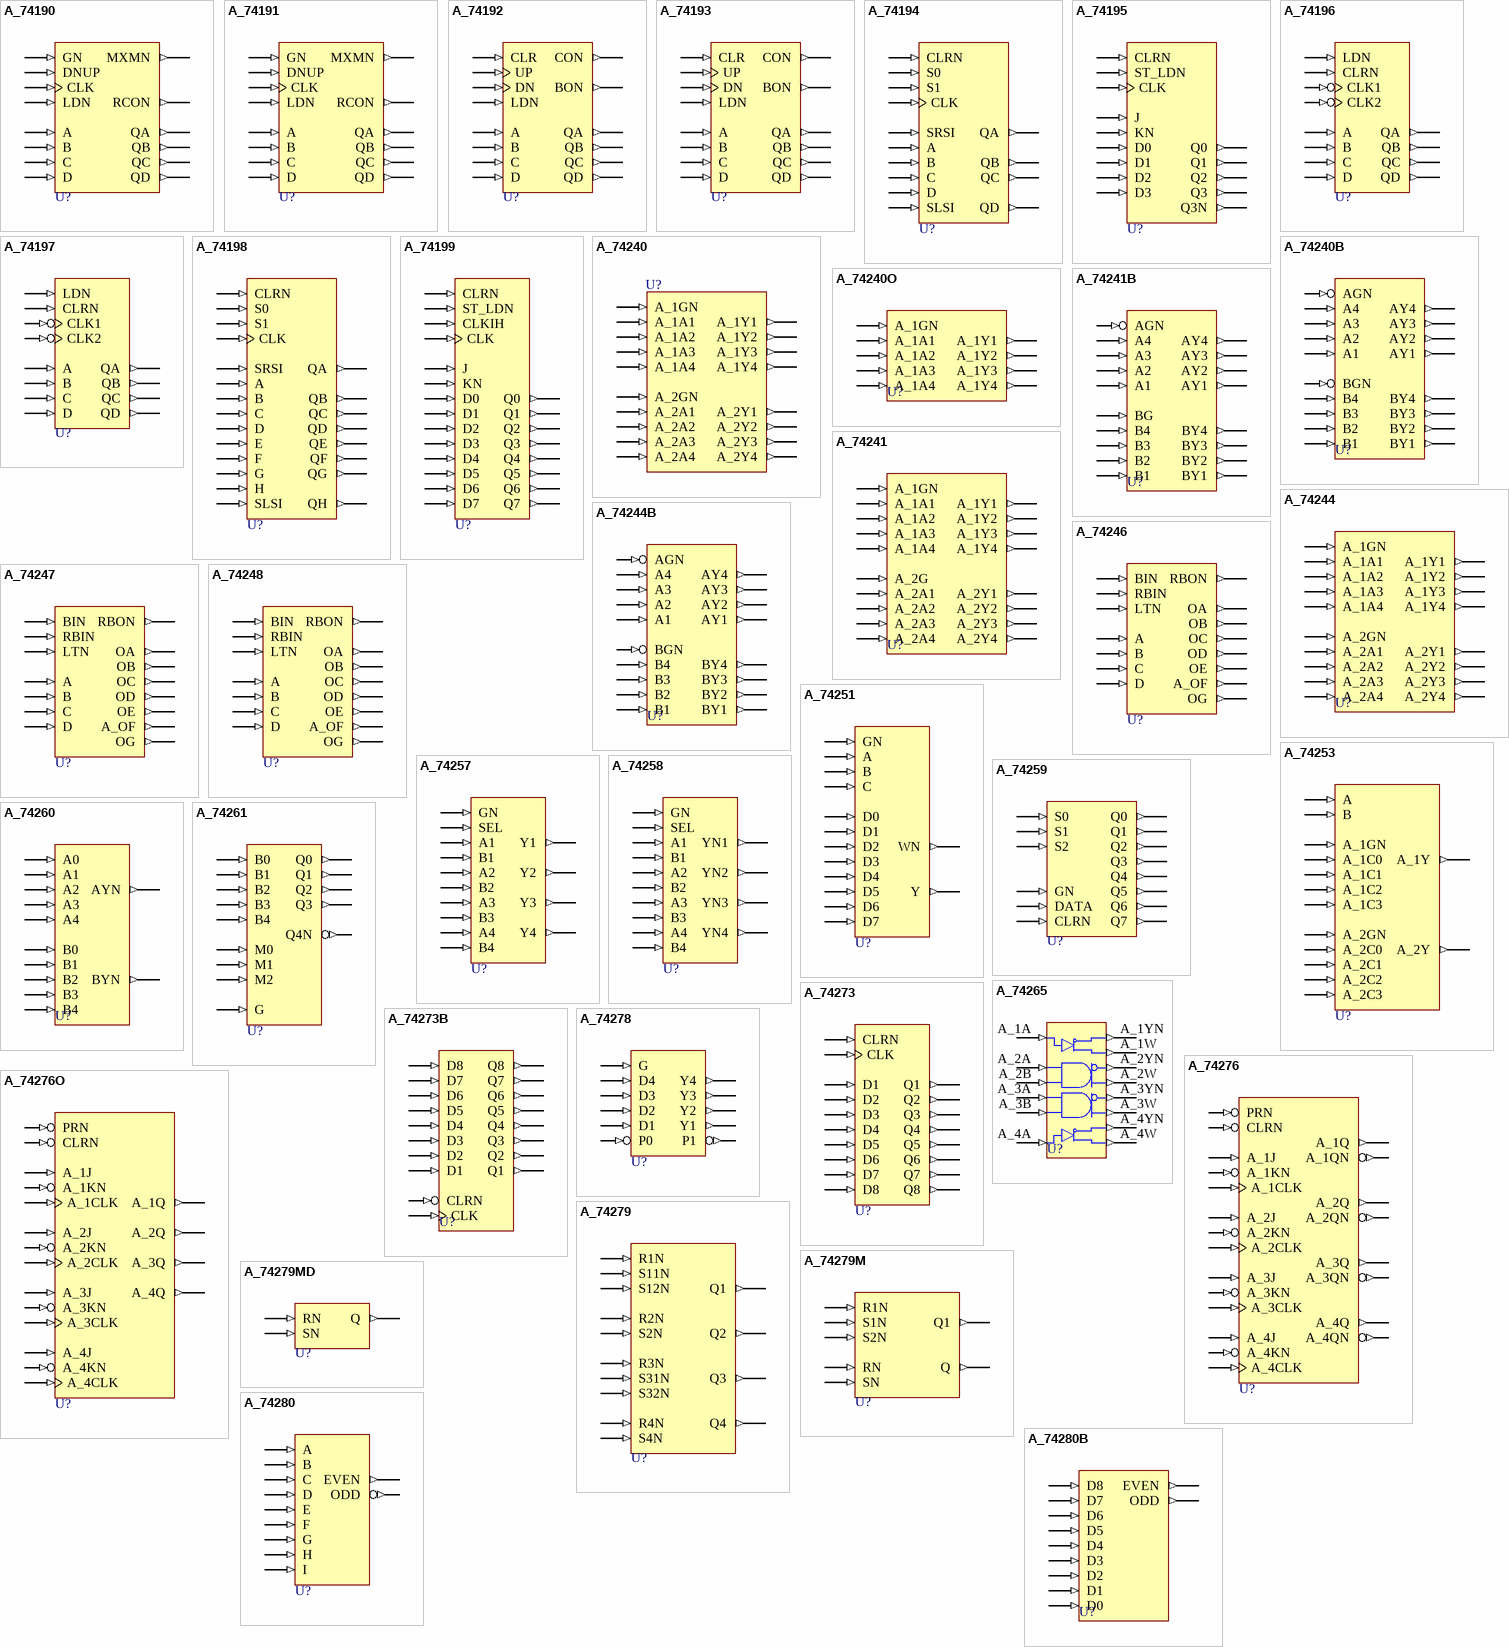
[diagram p4: symbols A_74190 to A_74280B]

## A_74190
designator U?
4-Bit Decade Up/Down Counter with Asynchronous Load; FPGAVendor: Altera; Published: 17-Apr-2002; Publisher: Altium Limited
pins: A (in), B (in), C (in), CLK (in), D (in), DNUP (in), GN (in), LDN (in), MXMN (out), QA (out), QB (out), QC (out), QD (out), RCON (out)

## A_74191
designator U?
4-Bit Binary Up/Down Counter with Asynchronous Load; FPGAVendor: Altera; Published: 17-Apr-2002; Publisher: Altium Limited
pins: A (in), B (in), C (in), CLK (in), D (in), DNUP (in), GN (in), LDN (in), MXMN (out), QA (out), QB (out), QC (out), QD (out), RCON (out)

## A_74192
designator U?
4-Bit Decade Up/Down Counter with Asynchronous Clear; FPGAVendor: Altera; Published: 17-Apr-2002; Publisher: Altium Limited
pins: A (in), B (in), BON (out), C (in), CLR (in), CON (out), D (in), DN (in), LDN (in), QA (out), QB (out), QC (out), QD (out), UP (in)

## A_74193
designator U?
4-Bit Binary Up/Down Counter with Asynchronous Clear; FPGAVendor: Altera; Published: 17-Apr-2002; Publisher: Altium Limited
pins: A (in), B (in), BON (out), C (in), CLR (in), CON (out), D (in), DN (in), LDN (in), QA (out), QB (out), QC (out), QD (out), UP (in)

## A_74194
designator U?
4-Bit Bidirectional Shift Register with Parallel Load; FPGAVendor: Altera; Published: 17-Apr-2002; Publisher: Altium Limited
pins: A (in), B (in), C (in), CLK (in), CLRN (in), D (in), QA (out), QB (out), QC (out), QD (out), S0 (in), S1 (in), SLSI (in), SRSI (in)

## A_74195
designator U?
4-Bit Parallel-Access Shift Register; FPGAVendor: Altera; Published: 17-Apr-2002; Publisher: Altium Limited
pins: CLK (in), CLRN (in), D0 (in), D1 (in), D2 (in), D3 (in), J (in), KN (in), Q0 (out), Q1 (out), Q2 (out), Q3 (out), Q3N (out), ST_LDN (in)

## A_74196
designator U?
Presettable Decade Counter; FPGAVendor: Altera; Note: This component doesn't function as described as the truth table when in Bi-Quinary mode. However, this might be Altera's problem, since this problem is exist when using Altera's provided library.; Published: 17-Apr-2002; Publisher: Altium Limited
pins: A (in), B (in), C (in), CLK1 (in), CLK2 (in), CLRN (in), D (in), LDN (in), QA (out), QB (out), QC (out), QD (out)

## A_74197
designator U?
Presettable Binary Counter; FPGAVendor: Altera; Published: 17-Apr-2002; Publisher: Altium Limited
pins: A (in), B (in), C (in), CLK1 (in), CLK2 (in), CLRN (in), D (in), LDN (in), QA (out), QB (out), QC (out), QD (out)

## A_74198
designator U?
8-Bit Bidirectional Shift Register; FPGAVendor: Altera; Published: 17-Apr-2002; Publisher: Altium Limited
pins: A (in), B (in), C (in), CLK (in), CLRN (in), D (in), E (in), F (in), G (in), H (in), QA (out), QB (out), QC (out), QD (out), QE (out), QF (out), QG (out), QH (out), S0 (in), S1 (in), SLSI (in), SRSI (in)

## A_74199
designator U?
8-Bit Parallel-Access Shift Register; FPGAVendor: Altera; Published: 17-Apr-2002; Publisher: Altium Limited
pins: CLK (in), CLKIH (in), CLRN (in), D0 (in), D1 (in), D2 (in), D3 (in), D4 (in), D5 (in), D6 (in), D7 (in), J (in), KN (in), Q0 (out), Q1 (out), Q2 (out), Q3 (out), Q4 (out), Q5 (out), Q6 (out), Q7 (out), ST_LDN (in)

## A_74240
designator U?
Octal Inverting Tri-State Buffer; FPGAVendor: Altera; Published: 17-Apr-2002; Publisher: Altium Limited
pins: A_1A1 (in), A_1A2 (in), A_1A3 (in), A_1A4 (in), A_1GN (in), A_1Y1 (out), A_1Y2 (out), A_1Y3 (out), A_1Y4 (out), A_2A1 (in), A_2A2 (in), A_2A3 (in), A_2A4 (in), A_2GN (in), A_2Y1 (out), A_2Y2 (out), A_2Y3 (out), A_2Y4 (out)

## A_74240B
designator U?
Octal Inverter Tri-State Buffer with Two Sections; FPGAVendor: Altera; Published: 17-Apr-2002; Publisher: Altium Limited
pins: A1 (in), A2 (in), A3 (in), A4 (in), AGN (in), AY1 (out), AY2 (out), AY3 (out), AY4 (out), B1 (in), B2 (in), B3 (in), B4 (in), BGN (in), BY1 (out), BY2 (out), BY3 (out), BY4 (out)

## A_74240O
designator U?
Octal Inverting Tri-State Buffer; FPGAVendor: Altera; Published: 17-Apr-2002; Publisher: Altium Limited
pins: A_1A1 (in), A_1A2 (in), A_1A3 (in), A_1A4 (in), A_1GN (in), A_1Y1 (out), A_1Y2 (out), A_1Y3 (out), A_1Y4 (out)

## A_74241
designator U?
Octal Tri-State Buffer; FPGAVendor: Altera; Published: 17-Apr-2002; Publisher: Altium Limited
pins: A_1A1 (in), A_1A2 (in), A_1A3 (in), A_1A4 (in), A_1GN (in), A_1Y1 (out), A_1Y2 (out), A_1Y3 (out), A_1Y4 (out), A_2A1 (in), A_2A2 (in), A_2A3 (in), A_2A4 (in), A_2G (in), A_2Y1 (out), A_2Y2 (out), A_2Y3 (out), A_2Y4 (out)

## A_74241B
designator U?
Octal Tri-State Buffer with Two Sections; FPGAVendor: Altera; Published: 17-Apr-2002; Publisher: Altium Limited
pins: A1 (in), A2 (in), A3 (in), A4 (in), AGN (in), AY1 (out), AY2 (out), AY3 (out), AY4 (out), B1 (in), B2 (in), B3 (in), B4 (in), BG (in), BY1 (out), BY2 (out), BY3 (out), BY4 (out)

## A_74244
designator U?
Octal Tri-State Buffer; FPGAVendor: Altera; Published: 17-Apr-2002; Publisher: Altium Limited
pins: A_1A1 (in), A_1A2 (in), A_1A3 (in), A_1A4 (in), A_1GN (in), A_1Y1 (out), A_1Y2 (out), A_1Y3 (out), A_1Y4 (out), A_2A1 (in), A_2A2 (in), A_2A3 (in), A_2A4 (in), A_2GN (in), A_2Y1 (out), A_2Y2 (out), A_2Y3 (out), A_2Y4 (out)

## A_74244B
designator U?
Octal Tri-State Buffer with Two Sections; FPGAVendor: Altera; Published: 17-Apr-2002; Publisher: Altium Limited
pins: A1 (in), A2 (in), A3 (in), A4 (in), AGN (in), AY1 (out), AY2 (out), AY3 (out), AY4 (out), B1 (in), B2 (in), B3 (in), B4 (in), BGN (in), BY1 (out), BY2 (out), BY3 (out), BY4 (out)

## A_74246
designator U?
BCD-to-7-Segment Decoder; FPGAVendor: Altera; Published: 17-Apr-2002; Publisher: Altium Limited
pins: A (in), A_OF (out), B (in), BIN (in), C (in), D (in), LTN (in), OA (out), OB (out), OC (out), OD (out), OE (out), OG (out), RBIN (in), RBON (out)

## A_74247
designator U?
BCD-to-7-Segment Decoder; FPGAVendor: Altera; Published: 17-Apr-2002; Publisher: Altium Limited
pins: A (in), A_OF (out), B (in), BIN (in), C (in), D (in), LTN (in), OA (out), OB (out), OC (out), OD (out), OE (out), OG (out), RBIN (in), RBON (out)

## A_74248
designator U?
BCD-to-7-Segment Decoder; FPGAVendor: Altera; Published: 17-Apr-2002; Publisher: Altium Limited
pins: A (in), A_OF (out), B (in), BIN (in), C (in), D (in), LTN (in), OA (out), OB (out), OC (out), OD (out), OE (out), OG (out), RBIN (in), RBON (out)

## A_74251
designator U?
8-Line-to-1-Line Data Selector with Tri-State Outputs; FPGAVendor: Altera; Published: 17-Apr-2002; Publisher: Altium Limited
pins: A (in), B (in), C (in), D0 (in), D1 (in), D2 (in), D3 (in), D4 (in), D5 (in), D6 (in), D7 (in), GN (in), WN (out), Y (out)

## A_74253
designator U?
Dual 4-Line-to-1-Line Data Selector with Tri-State Outputs; FPGAVendor: Altera; Published: 17-Apr-2002; Publisher: Altium Limited
pins: A (in), A_1C0 (in), A_1C1 (in), A_1C2 (in), A_1C3 (in), A_1GN (in), A_1Y (out), A_2C0 (in), A_2C1 (in), A_2C2 (in), A_2C3 (in), A_2GN (in), A_2Y (out), B (in)

## A_74257
designator U?
Quad 2-Line-to-1-Line Multiplexer with Tri-State Outputs; FPGAVendor: Altera; Published: 17-Apr-2002; Publisher: Altium Limited
pins: A1 (in), A2 (in), A3 (in), A4 (in), B1 (in), B2 (in), B3 (in), B4 (in), GN (in), SEL (in), Y1 (out), Y2 (out), Y3 (out), Y4 (out)

## A_74258
designator U?
Quad 2-Line-to-1-Line Multiplexer with Inverting Tri-State Outputs; FPGAVendor: Altera; Published: 17-Apr-2002; Publisher: Altium Limited
pins: A1 (in), A2 (in), A3 (in), A4 (in), B1 (in), B2 (in), B3 (in), B4 (in), GN (in), SEL (in), YN1 (out), YN2 (out), YN3 (out), YN4 (out)

## A_74259
designator U?
8-Bit Addressable Latch with Clear; FPGAVendor: Altera; Published: 17-Apr-2002; Publisher: Altium Limited
pins: CLRN (in), DATA (in), GN (in), Q0 (out), Q1 (out), Q2 (out), Q3 (out), Q4 (out), Q5 (out), Q6 (out), Q7 (out), S0 (in), S1 (in), S2 (in)

## A_74260
designator U?
Dual 5-Input Positive NOR Gates; FPGAVendor: Altera; Published: 17-Apr-2002; Publisher: Altium Limited
pins: A0 (in), A1 (in), A2 (in), A3 (in), A4 (in), AYN (out), B0 (in), B1 (in), B2 (in), B3 (in), B4 (in), BYN (out)

## A_74261
designator U?
2-Bit Parallel Binary Multiplier; FPGAVendor: Altera; Published: 17-Apr-2002; Publisher: Altium Limited
pins: B0 (in), B1 (in), B2 (in), B3 (in), B4 (in), G (in), M0 (in), M1 (in), M2 (in), Q0 (out), Q1 (out), Q2 (out), Q3 (out), Q4N (out)

## A_74265
designator U?
Quad Complementary Output Elements; FPGAVendor: Altera; Published: 17-Apr-2002; Publisher: Altium Limited
pins: A_1A (in), A_1W (out), A_1YN (out), A_2A (in), A_2B (in), A_2W (out), A_2YN (out), A_3A (in), A_3B (in), A_3W (out), A_3YN (out), A_4A (in), A_4W (out), A_4YN (out)